# Altium schematic symbol library Altium Library Master.SchLib: 676 symbols (part 2 of 4)
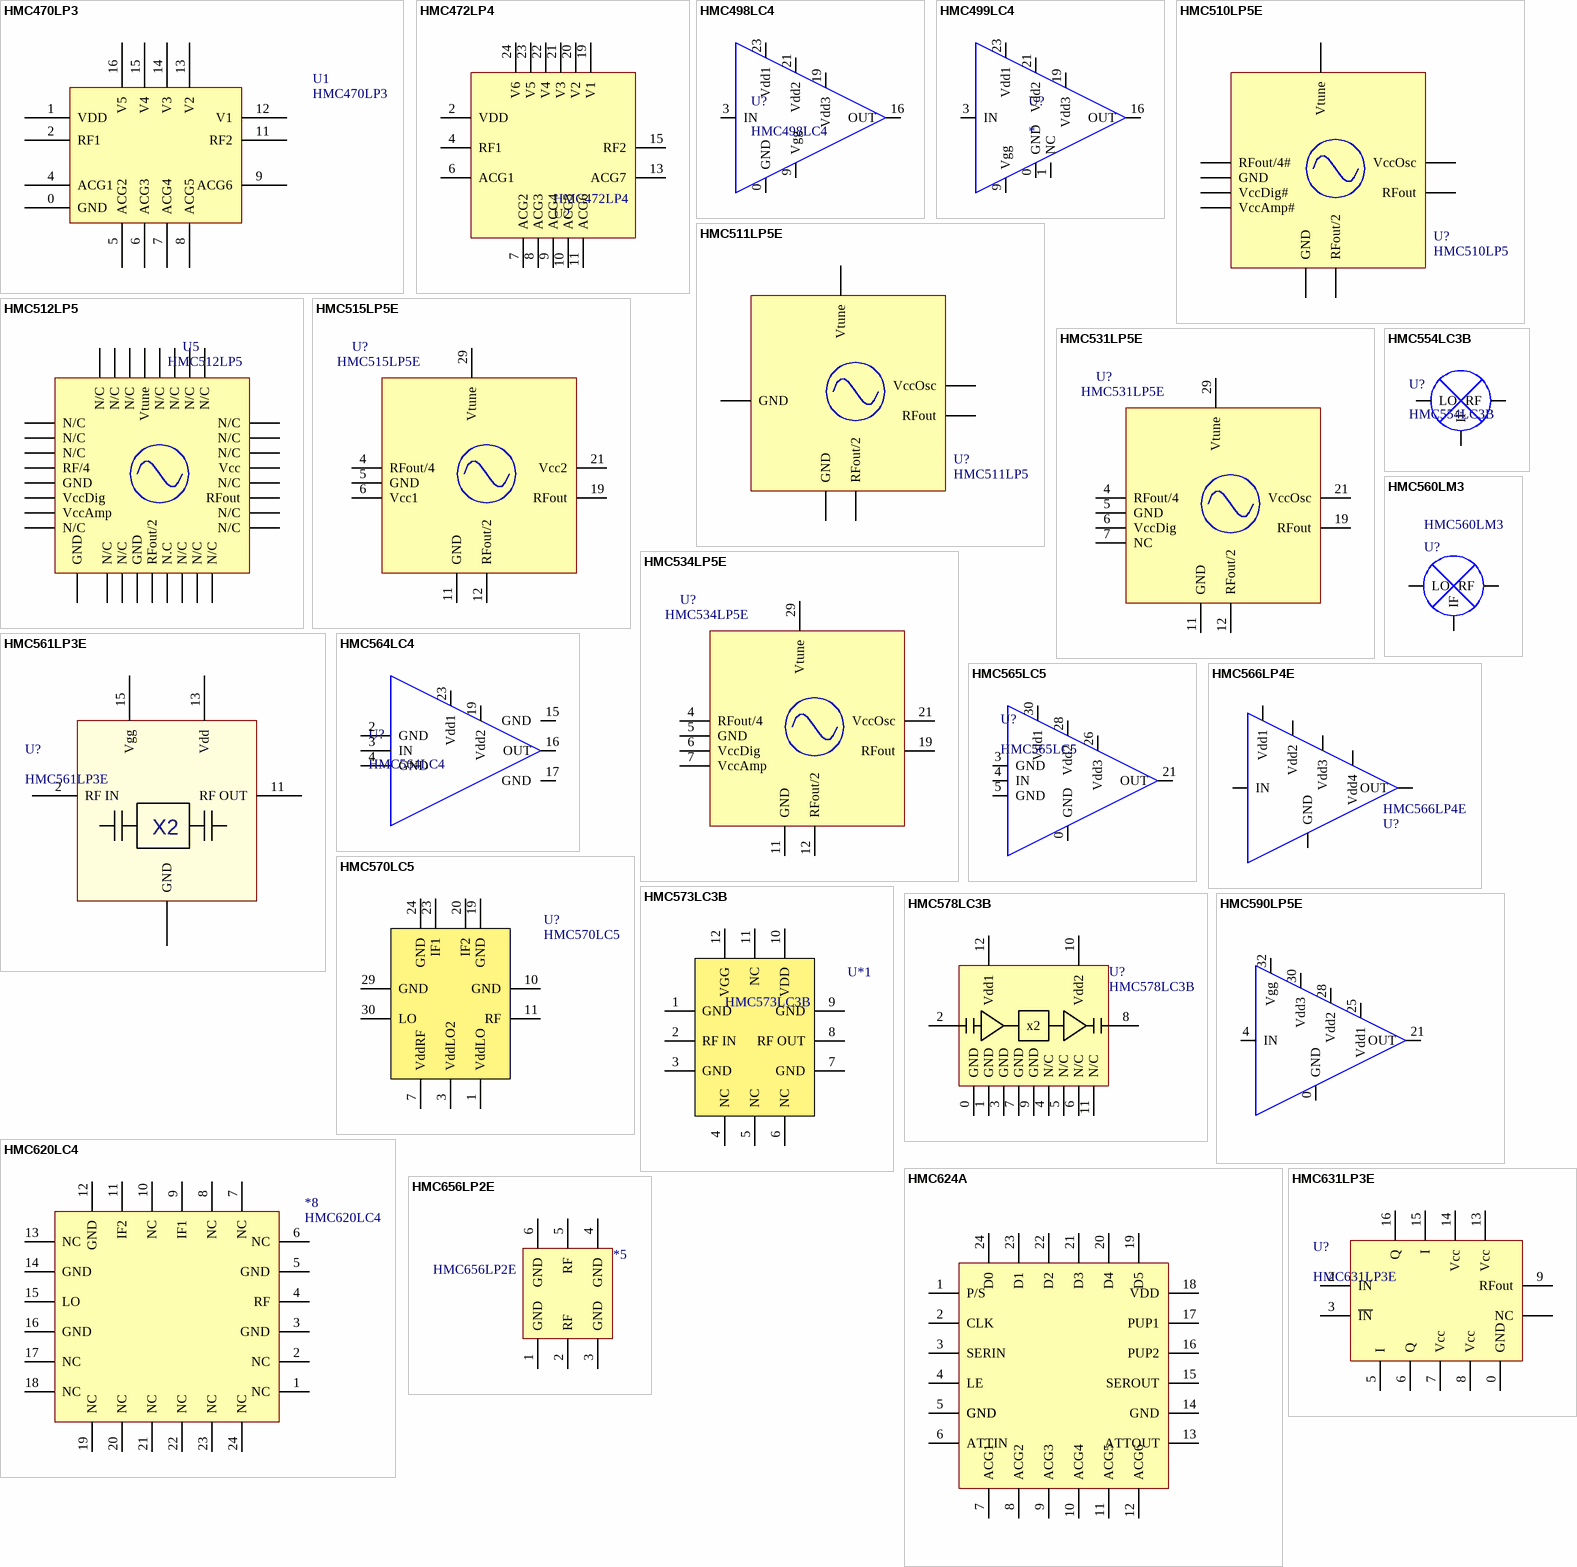
[diagram p32: symbols HMC470LP3 to HMC656LP2E]

## HMC511LP5E
designator U?, comment HMC511LP5
MMIC VCO with Half Frequency Output,  9.05 GHz to 10.15 GHz
pins: 0 GND hidden to GND, 1 N/C hidden to GND, 2 N/C hidden to GND, 3 N/C hidden to GND, 4 N/C hidden, 5 GND, 6 N/C hidden, 7 N/C hidden, 8 N/C hidden to GND, 9 N/C hidden to GND, 10 N/C hidden to GND, 11 GND, 12 RFout/2, 13 N.C hidden to GND, 14 N/C hidden to GND, 15 N/C hidden to GND, 16 N/C hidden to GND, 17 N/C hidden to GND, 18 N/C hidden to GND, 19 RFout, 20 N/C hidden to GND, 21 VccOsc, 22 N/C hidden to GND, 23 N/C hidden to GND, 24 N/C hidden to GND, 25 N/C hidden to GND, 26 N/C hidden to GND, 27 N/C hidden to GND, 28 N/C hidden to GND, 29 Vtune, 30 N/C hidden to GND, 31 N/C hidden to GND, 32 N/C hidden to GND

## HMC512LP5
designator U5
MMIC VCO w/ HALF FREQUENCY OUTPUT  & DIVIDE-BY-4, 9.6 - 10.6GHz
footprint RFVC1834 (9.0GHz to 10.2GHz MMIC VCO with  Fo/2 and Fo/4 Outputs)
footprint HMC515LP5E (MMIC VCO w/ HALF FREQUENCY OUTPUT  & DIVIDE-BY-4, 11.5 - 12.5 GHz)
pins: 0 GND hidden to GND, 1 N/C hidden to GND, 2 N/C hidden to GND, 3 N/C hidden to GND, 4 RF/4 "Vcc2", 5 GND "Vcc2", 6 VccDig "Vcc2", 7 VccAmp "Vcc2", 8 N/C hidden to GND, 9 N/C hidden to GND, 10 N/C hidden to GND, 11 GND, 12 RFout/2, 13 N.C hidden to GND, 14 N/C hidden to GND, 15 N/C hidden to GND, 16 N/C hidden to GND, 17 N/C hidden to GND, 18 N/C hidden to GND, 19 RFout, 20 N/C hidden to GND, 21 Vcc "Vcc2", 22 N/C hidden to GND, 23 N/C hidden to GND, 24 N/C hidden to GND, 25 N/C hidden to GND, 26 N/C hidden to GND, 27 N/C hidden to GND, 28 N/C hidden to GND, 29 Vtune, 30 N/C hidden to GND, 31 N/C hidden to GND, 32 N/C hidden to GND

## HMC515LP5E
designator U?
MMIC VCO w/ HALF FREQUENCY OUTPUT  & DIVIDE-BY-4, 11.5 - 12.5 GHz
pins: 0 GND hidden to GND, 1 N/C hidden to GND, 2 N/C hidden to GND, 3 N/C hidden to GND, 4 RFout/4, 5 GND, 6 Vcc1, 7 N/C hidden to GND, 8 N/C hidden to GND, 9 N/C hidden to GND, 10 N/C hidden to GND, 11 GND, 12 RFout/2, 13 N.C hidden to GND, 14 N/C hidden to GND, 15 N/C hidden to GND, 16 N/C hidden to GND, 17 N/C hidden to GND, 18 N/C hidden to GND, 19 RFout, 20 N/C hidden to GND, 21 Vcc2, 22 N/C hidden to GND, 23 N/C hidden to GND, 24 N/C hidden to GND, 25 N/C hidden to GND, 26 N/C hidden to GND, 27 N/C hidden to GND, 28 N/C hidden to GND, 29 Vtune, 30 N/C hidden to GND, 31 N/C hidden to GND, 32 N/C hidden to GND

## HMC531LP5E
designator U?
13.6 to 14.9GHz MMIC VCO with  Fo/2 and Fo/4 Outputs
pins: 0 GND hidden to GND, 1 N/C hidden to GND, 2 N/C hidden to GND, 3 N/C hidden to GND, 4 RFout/4, 5 GND, 6 VccDig, 7 NC, 8 N/C hidden to GND, 9 N/C hidden to GND, 10 N/C hidden to GND, 11 GND, 12 RFout/2, 13 N.C hidden to GND, 14 N/C hidden to GND, 15 N/C hidden to GND, 16 N/C hidden to GND, 17 N/C hidden to GND, 18 N/C hidden to GND, 19 RFout, 20 N/C hidden to GND, 21 VccOsc, 22 N/C hidden to GND, 23 N/C hidden to GND, 24 N/C hidden to GND, 25 N/C hidden to GND, 26 N/C hidden to GND, 27 N/C hidden to GND, 28 N/C hidden to GND, 29 Vtune, 30 N/C hidden to GND, 31 N/C hidden to GND, 32 N/C hidden to GND

## HMC534LP5E
designator U?
10.6GHz to 11.8GHz MMIC VCO with  Fo/2 and Fo/4 Outputs
pins: 0 GND hidden to GND, 1 N/C hidden to GND, 2 N/C hidden to GND, 3 N/C hidden to GND, 4 RFout/4, 5 GND, 6 VccDig, 7 VccAmp, 8 N/C hidden to GND, 9 N/C hidden to GND, 10 N/C hidden to GND, 11 GND, 12 RFout/2, 13 N.C hidden to GND, 14 N/C hidden to GND, 15 N/C hidden to GND, 16 N/C hidden to GND, 17 N/C hidden to GND, 18 N/C hidden to GND, 19 RFout, 20 N/C hidden to GND, 21 VccOsc, 22 N/C hidden to GND, 23 N/C hidden to GND, 24 N/C hidden to GND, 25 N/C hidden to GND, 26 N/C hidden to GND, 27 N/C hidden to GND, 28 N/C hidden to GND, 29 Vtune, 30 N/C hidden to GND, 31 N/C hidden to GND, 32 N/C hidden to GND

## HMC554LC3B
designator U?
GaAs MMIC Fundamental Mixer, 11-20GHz
pins: 0 GND hidden to GND, 1 GND hidden to GND, 2 LO, 3 GND hidden to GND, 4 GND hidden to GND, 5 IF, 6 GND hidden to GND, 7 GND hidden to GND, 8 RF, 9 GND hidden to GND, 10 GND hidden to GND, 11 GND hidden to GND, 12 GND hidden to GND

## HMC560LM3
designator U?
GaAs MMIC Fundamental Mixer
pins: 0 GND hidden to GND, 1 NC hidden, 2 NC hidden, 3 NC hidden, 4 RF, 5 IF, 6 LO

## HMC561LP3E
designator U?
MMIC, x2 Multiplier, Active, Fo-8-21GHz, Po=+14dBm, 5V@ 98mA
pins: 0 GND "VDD", 1 GND "VDD", 2 RF IN "GND", 3 GND "Enable", 4 N/C, 5 N/C, 6 N/C, 7 N/C, 8 N/C, 9 N/C, 10 GND "Vout 3", 11 RF OUT "Vout 2", 12 GND "Vout 1", 13 Vdd "Set VR2", 14 N/C, 15 Vgg "Feedback for VR1", 16 N/C
text: X2

## HMC564LC4
designator U?
PHEMT LOW NOISE  AMPLIFIER, 7 - 14 GHz
pins: 0 GND hidden to GND, 1 GND hidden to GND, 2 GND, 3 IN, 4 GND, 5 NC hidden to GND, 6 NC hidden to GND, 7 NC hidden to GND, 8 NC hidden to GND, 9 NC hidden to GND, 10 NC hidden to GND, 11 NC hidden to GND, 12 NC hidden to GND, 13 NC hidden to GND, 14 NC hidden to GND, 15 GND, 16 OUT, 17 GND, 18 GND hidden to GND, 19 Vdd2, 20 NC hidden to GND, 21 NC hidden to GND, 22 NC hidden to GND, 23 Vdd1, 24 NC hidden to GND

## HMC565LC5
designator U?
GaAs SMT PHEMT LNA, 6-20GHz
pins: 0 GND, 1 GND, 2 GND, 3 GND, 4 IN, 5 GND, 6 GND, 7 GND, 8 GND, 9 GND, 10 GND, 11 GND, 12 GND, 13 GND, 14 GND, 15 GND, 16 GND, 17 GND, 18 GND, 19 GND, 20 GND, 21 OUT, 22 GND, 23 GND, 24 GND, 25 GND, 26 Vdd3, 27 GND, 28 Vdd2, 29 GND, 30 Vdd1, 31 GND, 32 GND

## HMC566LP4E
designator U?
GaAs SMT PHEMT LNA, 28-36GHz
pins: 0 GND, 1 GND hidden to GND, 2 GND hidden to GND, 3 IN, 4 GND hidden to GND, 5 GND hidden to GND, 6 GND hidden to GND, 7 GND hidden to GND, 8 NC hidden to GND, 9 NC hidden to GND, 10 NC hidden to GND, 11 NC hidden to GND, 12 GND hidden to GND, 13 GND hidden to GND, 14 GND hidden to GND, 15 GND hidden to GND, 16 OUT, 17 GND hidden to GND, 18 GND hidden to GND, 19 GND hidden to GND, 20 Vdd4, 21 Vdd3, 22 Vdd2, 23 Vdd1, 24 GND hidden to GND

## HMC570LC5
designator U?
GaAs MMIC I/Q Downconverter, 17-21 GHz
pins: 0 GND hidden to GND, 1 VddLO, 2 hidden to GND, 3 VddLO2, 4 hidden to GND, 5 hidden to GND, 6 hidden to GND, 7 VddRF, 8 hidden to GND, 9 hidden to GND, 10 GND, 11 RF, 12 hidden to GND, 13 hidden to GND, 14 hidden to GND, 15 hidden to GND, 16 hidden to GND, 17 hidden to GND, 18 hidden to GND, 19 GND, 20 IF2, 21 hidden to GND, 22 hidden to GND, 23 IF1, 24 GND, 25 hidden to GND, 26 hidden to GND, 27 hidden to GND, 28 hidden to GND, 29 GND, 30 LO, 31 hidden to GND, 32 hidden to GND

## HMC573LC3B
designator U*1
pins: 1 GND, 2 RF IN, 3 GND, 4 NC, 5 NC, 6 NC, 7 GND, 8 RF OUT, 9 GND, 10 VDD, 11 NC, 12 VGG

## HMC578LC3B
designator U?
GaAs MMIX doubler, 23-33GHz Output, +5V@81mA; Part Number: 58-HMC578L-01
footprint HMC578LC3B (Footprint from HMC578LC3B eval board)
pins: 0 GND, 1 GND, 2 IN, 3 GND, 4 N/C, 5 N/C, 6 N/C, 7 GND, 8 OUT, 9 GND, 10 Vdd2, 11 N/C, 12 Vdd1, Name1 x2

## HMC590LP5E
designator H?
MMIC, 6-9.5GHz, P=30dBm, G=20dB, QFN 5x5
pins: 0 GND, 1 N/C hidden to GND, 2 N/C hidden to GND, 3 GND hidden to GND, 4 IN, 5 GND hidden to GND, 6 N/C hidden to GND, 7 N/C hidden to GND, 8 N/C hidden to GND, 9 N/C hidden to GND, 10 N/C hidden to GND, 11 N/C hidden to GND, 12 N/C hidden to GND, 13 N/C hidden to GND, 14 N/C hidden to GND, 15 N/C hidden to GND, 16 N/C hidden to GND, 17 N/C hidden to GND, 18 N/C hidden to GND, 19 N/C hidden to GND, 20 GND hidden to GND, 21 OUT, 22 GND hidden to GND, 23 N/C hidden to GND, 24 N/C hidden to GND, 25 Vdd1, 26 N/C hidden to GND, 27 N/C hidden to GND, 28 Vdd2, 29 N/C hidden to GND, 30 Vdd3, 31 N/C hidden to GND, 32 Vgg

## HMC620LC4
designator *8
pins: 1 NC, 2 NC, 3 GND, 4 RF, 5 GND, 6 NC, 7 NC, 8 NC, 9 IF1, 10 NC, 11 IF2, 12 GND, 13 NC, 14 GND, 15 LO, 16 GND, 17 NC, 18 NC, 19 NC, 20 NC, 21 NC, 22 NC, 23 NC, 24 NC

## HMC624A
designator U?
Attenuator, 6bit 31.5dB, 0-6GHz, Ser/Parallel, 24-VQFN
pins: 0 GND, 1 P/S "GND", 2 CLK, 3 SERIN, 4 LE, 5 GND, 6 ATTIN, 7 ACG1, 8 ACG2, 9 ACG3, 10 ACG4, 11 ACG5, 12 ACG6, 13 ATTOUT, 14 GND, 15 SEROUT, 16 PUP2, 17 PUP1, 18 VDD, 19 D5, 20 D4, 21 D3, 22 D2, 23 D1, 24 D0

## HMC631LP3E
designator U?
RF Modulator, 1.8GHz-2.7GHz, 16-VFQFN
pins: 0 GND, 1 NC, 2 IN, 3 ~{IN}, 4 NC, 5 I, 6 Q, 7 Vcc, 8 Vcc, 9 RFout, 10 NC, 11 NC, 12 NC, 13 Vcc, 14 Vcc, 15 I, 16 Q

## HMC656LP2E
designator *5
pins: 1 GND, 2 RF, 3 GND, 4 GND, 5 RF, 6 GND

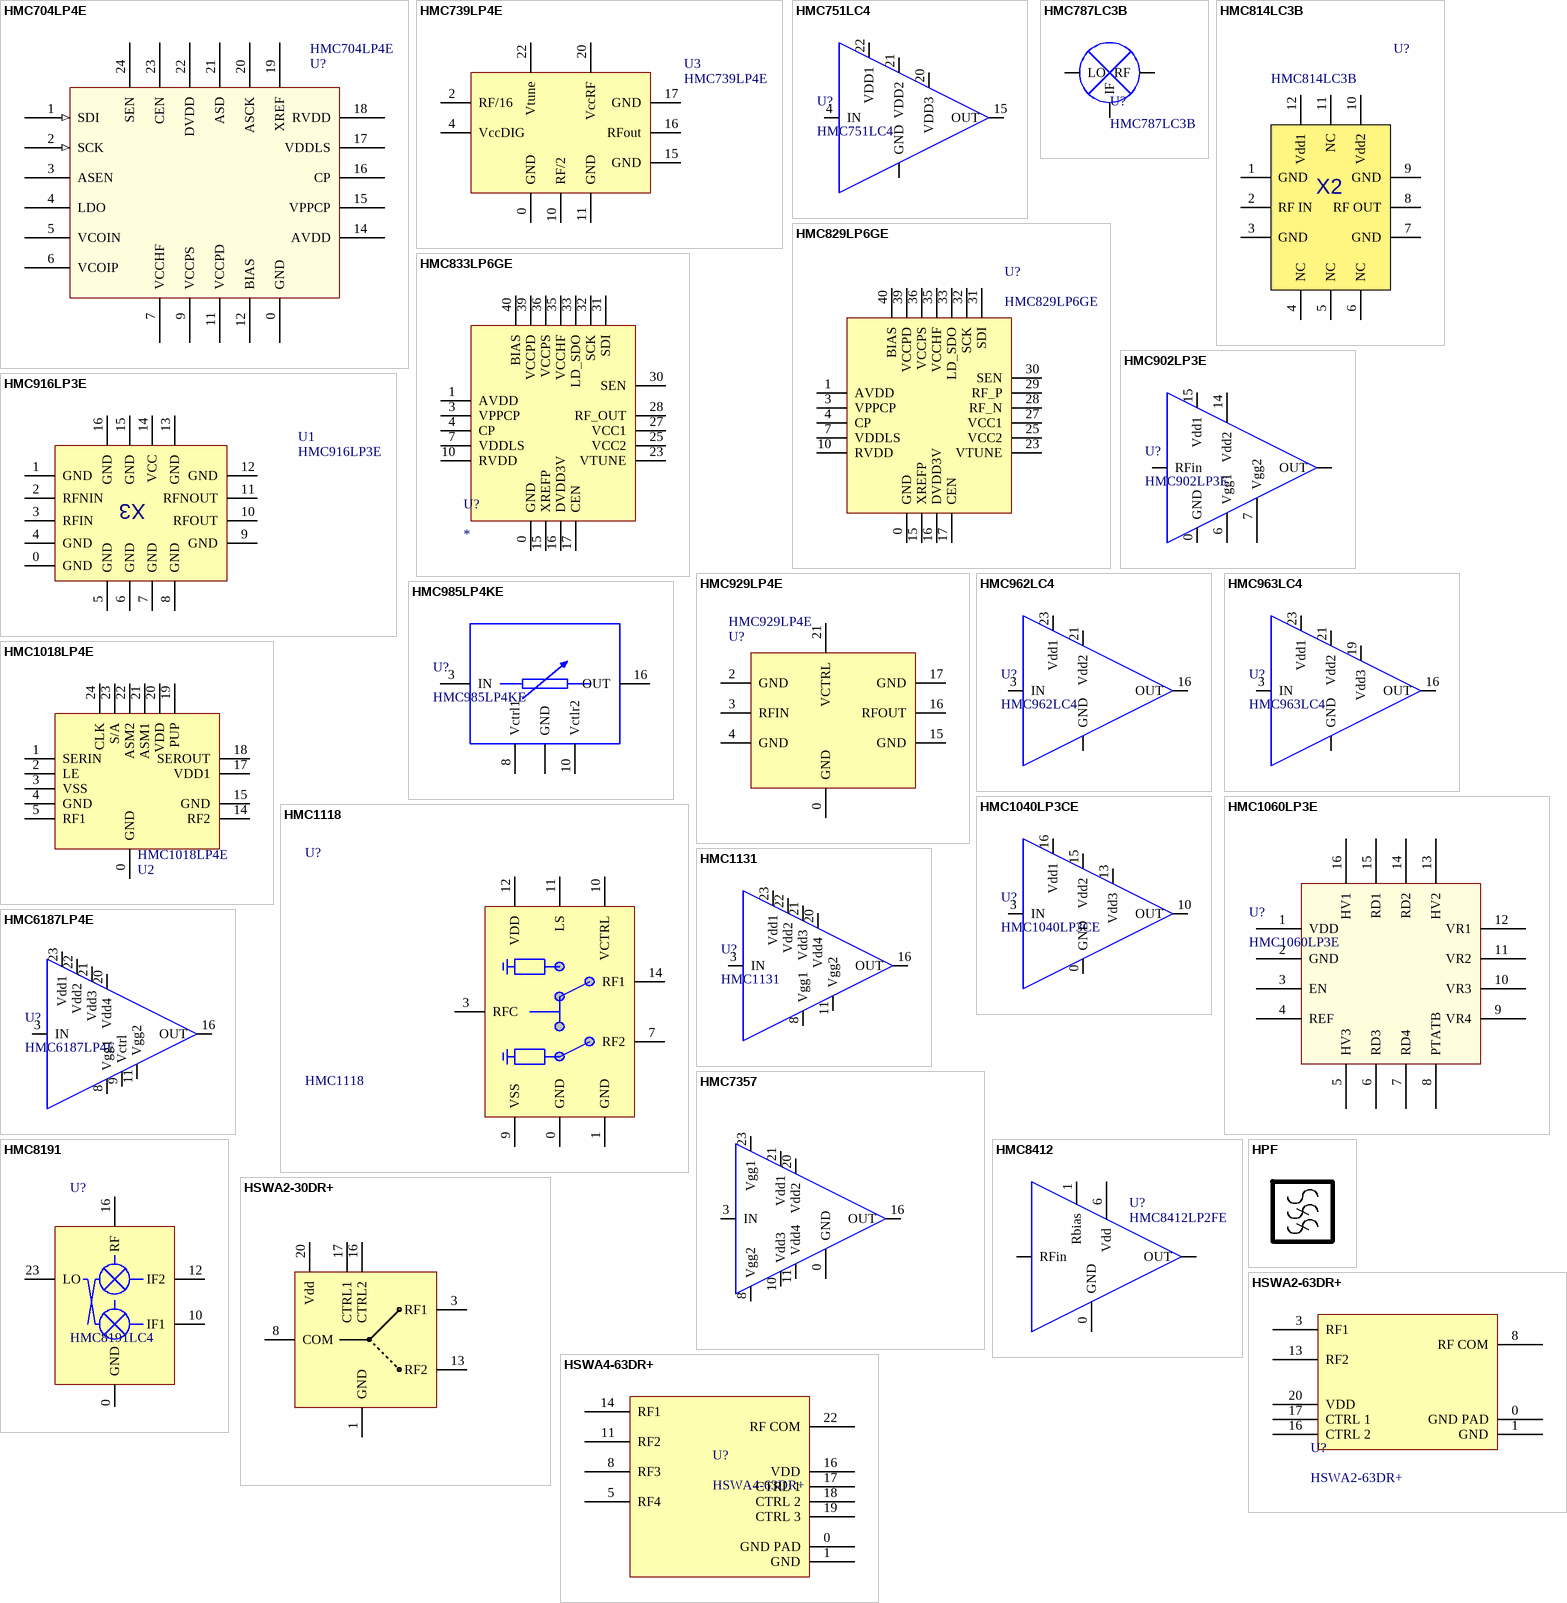
[diagram p10: symbols HMC704LP4E to HSWA4-63DR+]

## HMC704LP4E
designator U?
Fractional-N PLL
pins: 0 GND, 1 SDI (in) "Serial Data", 2 SCK (in) "Serial Clock", 3 ASEN "Aux Serial Port Enable", 4 LDO "Lock Detect Output", 5 VCOIN "VCO IN N", 6 VCOIP "VCO IN P", 7 VCCHF (power) "VCC RF", 8 hidden to GND, 9 VCCPS (power) "VCC Prescalar", 10 hidden to GND, 11 VCCPD (power) "VCC Phase Detector", 12 BIAS (power) "Bias", 13 hidden to GND, 14 AVDD (power) "Analog Supply", 15 VPPCP (power) "Charge Pump Supply", 16 CP "Charge Pump", 17 VDDLS (power) "Charge Pump Digital Supply", 18 RVDD (power) "REF Supply", 19 XREF "REF I/P", 20 ASCK "Aux clock output", 21 ASD "Aux data output", 22 DVDD (power) "Digital Supply", 23 CEN "Chip Enable", 24 SEN "Latch Enable"

## HMC739LP4E
designator U3
MMIC VCO, 23.8 - 26.8 GHz w/ divide by 2 & 16
pins: 0 GND, 1 NC hidden to GND, 2 RF/16 "RFout/16", 3 NC hidden to GND, 4 VccDIG "Vcc (DIG)", 5 NC hidden to GND, 6 NC hidden to GND, 7 NC hidden to GND, 8 NC hidden to GND, 9 NC hidden to GND, 10 RF/2 "RFout/2", 11 GND, 12 NC hidden to GND, 13 NC hidden to GND, 14 NC hidden to GND, 15 GND, 16 RFout, 17 GND, 18 NC hidden to GND, 19 NC hidden to GND, 20 VccRF "Vcc (RF)", 21 NC hidden to GND, 22 Vtune, 23 NC hidden to GND, 24 NC hidden to GND

## HMC751LC4
designator U?
GaAa pHEMT MMIC LOW NOISE  AMPLIFIER, 17 - 27 GHz
pins: 0 GND, 1 GND hidden to GND, 2 NC hidden to GND, 3 GND hidden to GND, 4 IN, 5 GND hidden to GND, 6 NC hidden to GND, 7 GND hidden to GND, 8 NC hidden to GND, 9 NC hidden to GND, 10 NC hidden to GND, 11 NC hidden to GND, 12 GND hidden to GND, 13 GND hidden to GND, 14 GND hidden to GND, 15 OUT, 16 GND hidden to GND, 17 NC hidden to GND, 18 GND hidden to GND, 19 GND hidden to GND, 20 VDD3, 21 VDD2, 22 VDD1, 23 NC hidden to GND, 24 GND hidden to GND

## HMC787LC3B
designator U?
GaAs MMIC Fundamental Mixer, 3-10GHz
pins: 0 GND hidden to GND, 1 GND hidden to GND, 2 LO, 3 GND hidden to GND, 4 GND hidden to GND, 5 IF, 6 GND hidden to GND, 7 GND hidden to GND, 8 RF, 9 GND hidden to GND, 10 GND hidden to GND, 11 GND hidden to GND, 12 GND hidden to GND

## HMC814LC3B
designator U?
GaAs MMIC X2 Active Freq Multiplier, 13-24.6GHz
pins: 0 GND hidden to GND, 1 GND, 2 RF IN, 3 GND, 4 NC, 5 NC, 6 NC, 7 GND, 8 RF OUT, 9 GND, 10 Vdd2, 11 NC, 12 Vdd1
text: X2

## HMC829LP6GE
designator U?
Fractional-N PLL and VCO, 45-1050, 1400-2100, 2800-4200, Phase Noise = -110 dBc/Hz, SPI
pins: 0 GND, 1 AVDD, 3 VPPCP, 4 CP, 7 VDDLS, 10 RVDD, 15 XREFP, 16 DVDD3V, 17 CEN, 23 VTUNE, 25 VCC2, 27 VCC1, 28 RF_N, 29 RF_P, 30 SEN, 31 SDI, 32 SCK, 33 LD_SDO, 35 VCCHF, 36 VCCPS, 39 VCCPD, 40 BIAS

## HMC833LP6GE
designator U?
PLL Fractional-N /w VCO, 25-6000MHz
pins: 0 GND, 1 AVDD, 2 hidden to GND, 3 VPPCP, 4 CP, 5 hidden to GND, 6 hidden to GND, 7 VDDLS, 8 hidden, 9 hidden to GND, 10 RVDD, 11 hidden to GND, 12 hidden to GND, 13 hidden to GND, 14 hidden to GND, 15 XREFP, 16 DVDD3V, 17 CEN, 18 hidden to GND, 19 hidden to GND, 20 hidden to GND, 21 hidden to GND, 22 hidden to GND, 23 VTUNE, 24 hidden to GND, 25 VCC2, 26 hidden to GND, 27 VCC1, 28 RF_OUT, 29 hidden to GND, 30 SEN, 31 SDI, 32 SCK, 33 LD_SDO, 34 hidden to GND, 35 VCCHF, 36 VCCPS, 37 hidden to GND, 38 hidden to GND, 39 VCCPD, 40 BIAS

## HMC902LP3E
designator U?
GaAs pHEMT MMIC LOW NOISE  AMPLIFIER, 5 - 10 GHz
pins: 0 GND, 1 GND hidden to GND, 2 GND hidden to GND, 3 RFin, 4 GND hidden to GND, 5 GND hidden to GND, 6 Vgg1, 7 Vgg2, 8 GND hidden to GND, 9 GND hidden to GND, 10 OUT, 11 GND hidden to GND, 12 GND hidden to GND, 13 GND hidden to GND, 14 Vdd2, 15 Vdd1, 16 GND hidden to GND

## HMC916LP3E
designator U1
MMIC x3 ACTIVE  FREQUENCY MULTIPLIER, 8 - 16 GHz OUTPUT
footprint LP3
pins: 0 GND, 1 GND, 2 RFNIN, 3 RFIN, 4 GND, 5 GND, 6 GND, 7 GND, 8 GND, 9 GND, 10 RFOUT, 11 RFNOUT, 12 GND, 13 GND, 14 VCC, 15 GND, 16 GND
text: X3

## HMC929LP4E
designator U?
Analog Phase Shifter, 4 - 8 GHz
pins: 0 GND, 2 GND, 3 RFIN, 4 GND, 15 GND, 16 RFOUT, 17 GND, 21 VCTRL

## HMC962LC4
designator U?
pHEMT MMIC LOW NOISE  AMPLIFIER, 7.5 - 26.5 GHz
pins: 0 GND, 1 GND hidden to GND, 2 GND hidden to GND, 3 IN, 4 GND hidden to GND, 5 NC hidden to GND, 6 NC hidden to GND, 7 NC hidden to GND, 8 NC hidden to GND, 9 NC hidden to GND, 10 NC hidden to GND, 11 NC hidden to GND, 12 NC hidden to GND, 13 NC hidden to GND, 14 NC hidden to GND, 15 GND hidden to GND, 16 OUT, 17 GND hidden to GND, 18 GND hidden to GND, 19 NC hidden to GND, 20 NC hidden to GND, 21 Vdd2, 22 NC hidden to GND, 23 Vdd1, 24 NC hidden to GND

## HMC963LC4
designator U?
pHEMT MMIC LOW NOISE  AMPLIFIER, 6 - 26.5 GHz
pins: 0 GND, 1 GND hidden to GND, 2 GND hidden to GND, 3 IN, 4 GND hidden to GND, 5 NC hidden to GND, 6 NC hidden to GND, 7 NC hidden to GND, 8 NC hidden to GND, 9 NC hidden to GND, 10 NC hidden to GND, 11 NC hidden to GND, 12 NC hidden to GND, 13 NC hidden to GND, 14 NC hidden to GND, 15 GND hidden to GND, 16 OUT, 17 GND hidden to GND, 18 GND hidden to GND, 19 Vdd3, 20 NC hidden to GND, 21 Vdd2, 22 NC hidden to GND, 23 Vdd1, 24 NC hidden to GND

## HMC985LP4KE
designator U?
VARIABLE VOLTAGE ATTENUATOR 10-40 GHz
pins: 0 GND, 1 GND hidden to GND, 2 GND hidden to GND, 3 IN, 4 GND hidden to GND, 5 GND hidden to GND, 6 NC hidden to GND, 7 GND hidden to GND, 8 Vctrl1, 9 NC hidden to GND, 10 Vctlr2, 11 NC hidden to GND, 12 GND hidden to GND, 13 GND hidden to GND, 14 GND hidden to GND, 15 GND hidden to GND, 16 OUT, 17 GND hidden to GND, 18 GND hidden to GND, 19 GND hidden to GND, 20 NC hidden, 21 NC hidden, 22 NC hidden, 23 NC hidden, 24 GND hidden to GND

## HMC1018LP4E
designator U2
Digital Attenuator, 0.1 - 30 GHz 5-bit serial
pins: 0 GND, 1 SERIN, 2 LE, 3 VSS, 4 GND, 5 RF1, 6 hidden to GND, 7 hidden to GND, 8 hidden to GND, 9 hidden to GND, 10 hidden to GND, 11 hidden to GND, 12 hidden to GND, 13 hidden to GND, 14 RF2 "RF1", 15 GND, 16 hidden to GND, 17 VDD1, 18 SEROUT, 19 PUP, 20 VDD, 21 ASM1, 22 ASM2 "ASM1", 23 S/A, 24 CLK

## HMC1040LP3CE
designator U?
GaAs SMT PHEMT LNA, 24-43GHz
pins: 0 GND, 1 hidden to GND, 2 hidden to GND, 3 IN, 4 hidden to GND, 5 hidden to GND, 6 hidden to GND, 7 hidden to GND, 8 hidden to GND, 9 hidden to GND, 10 OUT, 11 hidden to GND, 12 hidden to GND, 13 Vdd3, 14 hidden to GND, 15 Vdd2, 16 Vdd1

## HMC1060LP3E
designator U?
Volt Regulator, Quad adj, 500mA, Low Noise, LDO, LP3
pins: 0 GND hidden to GND, 1 VDD (power), 2 GND (power), 3 EN "Enable", 4 REF "Reference Voltage", 5 HV3 "Set VR3", 6 RD3 "Feedback for VR3", 7 RD4 "Feedback for VR4", 8 PTATB "PTAT", 9 VR4 (power) "Vout 4", 10 VR3 (power) "Vout 3", 11 VR2 (power) "Vout 2", 12 VR1 (power) "Vout 1", 13 HV2 "Set VR2", 14 RD2 (power) "Feedback for VR2", 15 RD1 (power) "Feedback for VR1", 16 HV1 "Set VR1"

## HMC1118
designator U?
RF Switch, SPDT, 9KhZ-13GHz, Absorptive, IL=0.7dB, P=37dBm, 0/3V3/-2V5, LFCSP-16 3mm; Part Number: 54-1118-01; MANUFACTURER: ANALOG; MODELNAME: HMC1118
footprint PQFN-14 3X3MM
pins: 0 GND, 1 GND, 2 GND, 3 RFC, 4 GND, 5 GND, 6 GND, 7 RF2, 8 GND, 9 VSS, 10 VCTRL, 11 LS, 12 VDD, 13 GND, 14 RF1, 15 GND, 16 GND

## HMC1131
designator U?
MEDIUM POWER AMPLIFIER  24 - 35 GHz
pins: 0 GND hidden to GND, 1 GND hidden to GND, 2 GND hidden to GND, 3 IN, 4 GND hidden to GND, 5 GND hidden to GND, 6 NC hidden to GND, 7 GND hidden to GND, 8 Vgg1, 9 NC hidden, 10 NC hidden, 11 Vgg2, 12 GND hidden to GND, 13 GND hidden to GND, 14 GND hidden to GND, 15 GND hidden to GND, 16 OUT, 17 GND hidden to GND, 18 GND hidden to GND, 19 GND hidden to GND, 20 Vdd4, 21 Vdd3, 22 Vdd2, 23 Vdd1, 24 GND hidden to GND

## HMC6187LP4E
designator U?
VARIABLE GAIN AMPLIFIER  27 - 31.5 GHz
pins: 0 GND hidden to GND, 1 GND hidden to GND, 2 GND hidden to GND, 3 IN, 4 GND hidden to GND, 5 GND hidden to GND, 6 NC hidden to GND, 7 GND hidden to GND, 8 Vgg1, 9 Vctrl, 10 NC hidden to GND, 11 Vgg2, 12 GND hidden to GND, 13 GND hidden to GND, 14 GND hidden to GND, 15 GND hidden to GND, 16 OUT, 17 GND hidden to GND, 18 GND hidden to GND, 19 GND hidden to GND, 20 Vdd4, 21 Vdd3, 22 Vdd2, 23 Vdd1, 24 GND hidden to GND

## HMC7357
designator U?
pins: 0 GND, 1 NC hidden to GND, 2 GND hidden to GND, 3 IN, 4 NC hidden to GND, 5 NC hidden to GND, 6 NC hidden to GND, 7 NC hidden to GND, 8 Vgg2, 9 NC hidden to GND, 10 Vdd3, 11 Vdd4, 12 NC hidden to GND, 13 NC hidden to GND, 14 NC hidden to GND, 15 GND hidden to GND, 16 OUT, 17 NC hidden to GND, 18 NC hidden to GND, 19 NC hidden to GND, 20 Vdd2, 21 Vdd1, 22 NC hidden to GND, 23 Vgg1, 24 NC hidden to GND

## HMC8191
designator U?, comment HMC8191LC4
Mixer, image reject, 6 - 26.5 GHz
pins: 0 GND, 1 GND, 2 GND, 3 GND, 4 GND, 5 GND, 6 GND, 7 GND, 8 GND, 9 GND, 10 IF1, 11 GND, 12 IF2, 13 GND, 14 GND, 15 GND, 16 RF, 17 GND, 18 GND, 19 GND, 20 GND, 21 GND, 22 GND, 23 LO, 24 GND

## HMC8412
designator U?, comment HMC8412LP2FE
Low Noise Amplifier, 0.4 GHz to 11 GHz; Part Number: 58-HMC902-01
pins: 0 GND, 1 Rbias, 2 GND hidden to GND, 3 RFin, 4 OUT, 5 GND hidden to GND, 6 Vdd

## HPF
designator Z?

## HSWA2-30DR+
designator S?
RF Switch, SPDT, DC-3GHz, Absorptive, IL=1dB, I=60dB, P=30dBm, 2V7-3V3, 4x4 QFN; Part Number: 20-H10-04
footprint DG983-1 (RF Switch, SPDT, DC-3GHz, Absorptive, IL=1dB, I=60dB, P=30dBm, 2V7-3V3, 4x4 QFN)
pins: 0 GND, 1 GND, 2 GND, 3 RF1, 4 GND, 5 GND, 6 GND, 7 GND, 8 COM, 9 GND, 10 GND, 11 GND, 12 GND, 13 RF2, 14 GND, 15 GND, 16 CTRL2, 17 CTRL1, 18 GND, 19 GND, 20 Vdd

## HSWA2-63DR+
designator U?
SP2T RF Switch, Absorptive, 0.1 to 6GHz
footprint DG983-3 (RF Switch, SPDT, 0.5-6GHz, Absorptive, IL=1dB, I=65dB, P=35dBm, 2V7-5V5, 4x4 QFN)
pins: 0 GND PAD, 1 GND, 2 GND hidden to GND, 3 RF1, 4 GND hidden to GND, 5 GND hidden to GND, 6 GND hidden to GND, 7 GND hidden to GND, 8 RF COM, 9 GND hidden to GND, 10 GND hidden to GND, 11 GND hidden to GND, 12 GND hidden to GND, 13 RF2, 14 GND hidden to GND, 15 GND hidden to GND, 16 CTRL 2, 17 CTRL 1, 18 GND hidden to GND, 19 GND hidden to GND, 20 VDD

## HSWA4-63DR+
designator U?
SP4T RF Switch, Absorptive, 0.1 to 6GHz
footprint QFN50P400X400X75_HS-25N (QFN, 24-Leads, Body 4.00x4.00mm, Pitch 0.50mm, Thermal Pad 2.75x2.75mm, IPC Medium Density)
pins: 0 GND PAD, 1 GND, 2 GND hidden to GND, 3 GND hidden to GND, 4 GND hidden to GND, 5 RF4, 6 GND hidden to GND, 7 GND hidden to GND, 8 RF3, 9 GND hidden to GND, 10 GND hidden to GND, 11 RF2, 12 GND hidden to GND, 13 GND hidden to GND, 14 RF1, 15 GND hidden to GND, 16 VDD, 17 CTRL 1, 18 CTRL 2, 19 CTRL 3, 20 GND hidden to GND, 21 GND hidden to GND, 22 RF COM, 23 GND hidden to GND, 24 GND hidden to GND

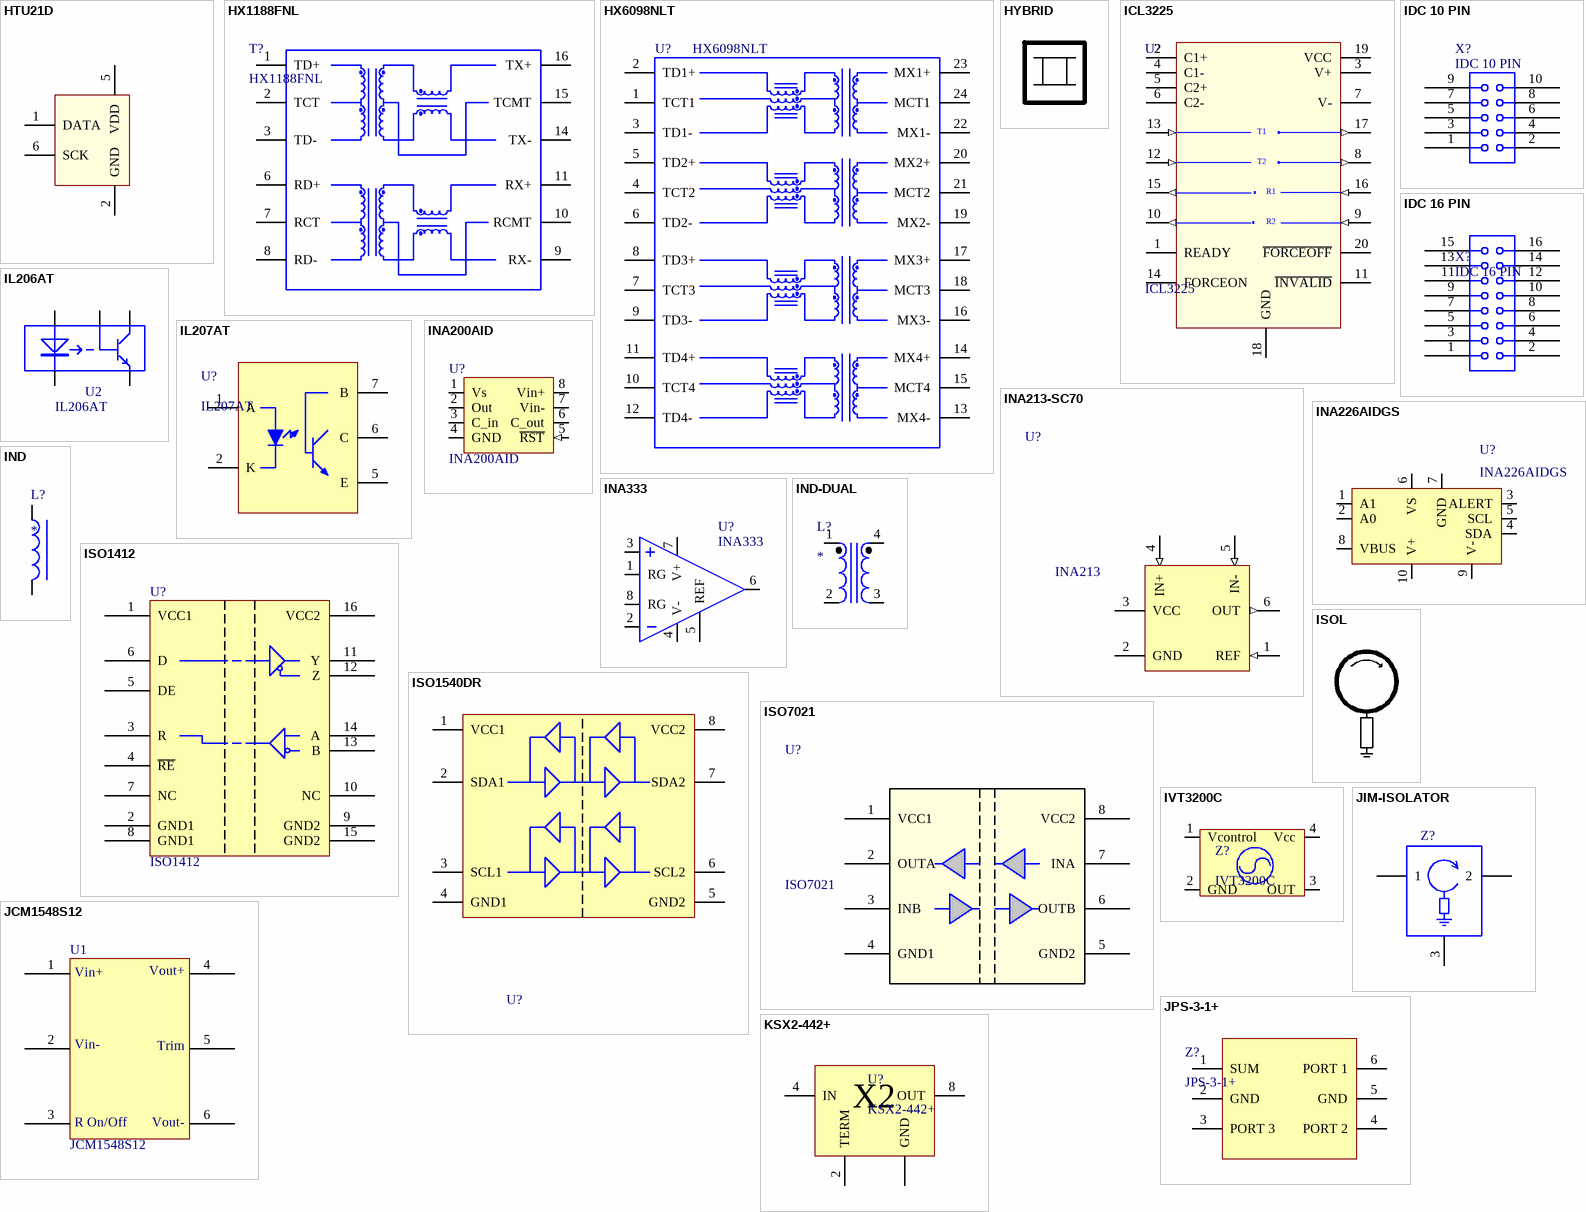
[diagram p11: symbols HTU21D to KSX2-442+]

## HTU21D
designator U?
PCB Header, 5+5way, 1.27mm, Polarise, SMD; Part Number: 20-H10-04
pins: 1 DATA, 2 GND, 5 VDD, 6 SCK

## HX1188FNL
designator T?
Ethernet Pulse Transformer
pins: 1 TD+, 2 TCT, 3 TD-, 6 RD+, 7 RCT, 8 RD-, 9 RX-, 10 RCMT, 11 RX+, 14 TX-, 15 TCMT, 16 TX+

## HX6098NLT
designator U?
Ethernet Transformer, Gigabit, 4-pair PoE
footprint HX6098NLT (Transformer, Ethernet, PoE, 1000Base-T, 140W, 1.5kV, SMD, -40/85C)
pins: 1 TCT1, 2 TD1+, 3 TD1-, 4 TCT2, 5 TD2+, 6 TD2-, 7 TCT3, 8 TD3+, 9 TD3-, 10 TCT4, 11 TD4+, 12 TD4-, 13 MX4-, 14 MX4+, 15 MCT4, 16 MX3-, 17 MX3+, 18 MCT3, 19 MX2-, 20 MX2+, 21 MCT2, 22 MX1-, 23 MX1+, 24 MCT1

## HYBRID
designator Z?

## ICL3225
designator U?
+3/5V RS-232 Dual Transceiver with 0.1µF External Capacitors; Published: 16-Jan-2001; LatestRevisionDate: 13-Apr-2006; LatestRevisionNote: IPC-7351 Footprint Added.; DatasheetVersion: Dec-1996; PackageReference: WSO16; Publisher: Altium Limited; PackageDescription: 16-Pin Small Outline Integrated Circuit 1.27 mm Pitch; Code_JEDEC: MS-013-AA; Code_IPC: SOIC127P1030-16; ComponentLink1Description: Manufacturer Link; ComponentLink1URL: http://www.maxim-ic.com/; ComponentLink2Description: Datasheet; ComponentLink2URL: http://pdfserv.maxim-ic.com/en/ds/MAX200-MAX213.pdf
pins: 1 READY (power), 2 C1+, 3 V+ (power), 4 C1-, 5 C2+, 6 C2-, 7 V- (power), 8 T2OUT (out), 9 R2IN (in), 10 R2OUT (out), 11 ~{INVALID} (power), 12 T2IN (in), 13 T1IN (in), 14 FORCEON (power), 15 R1OUT (out), 16 R1IN (in), 17 T1OUT (out), 18 GND (power), 19 VCC (power), 20 ~{FORCEOFF} (power)
text: T1; T2; R1; R2

## IDC 10 PIN
designator X?
pins: 1, 2, 3, 4, 5, 6, 7, 8, 9, 10

## IDC 16 PIN
designator X?
pins: 1, 2, 3, 4, 5, 6, 7, 8, 9, 10, 11, 12, 13, 14, 15, 16

## IL206AT
designator U2
pins: 1, 2, 5, 6, 7

## IL207AT
designator U?
Optocoupler
pins: 1 A, 2 K, 5 E, 6 C, 7 B

## INA200AID
designator U?
Current Sense Amp, 20V/V, 80V, -40/+125C, VSOP-8; Value: INA200AID
footprint VSSOP-8 (Pitch 0.65mm, 3x3mm body, 1.1mm height)
pins: 1 Vs (power), 2 Out, 3 C_in, 4 GND (power), 5 ~{RST} (in), 6 C_out, 7 Vin-, 8 Vin+

## INA213-SC70
designator U?, comment INA213
IC INA213 Bi-Directional Current Sense Amplifier -40°C to 125°C SC70 6-Pin; Manufacturer 1: TEXAS INSTRUMENTS; Manufacturer's 1 P/N: INA213AIDCK; UOM: EA; Price USD (1000): 0.69
footprint SC70-6 (SC70 6-Pin)
pins: 1 REF (in), 2 GND (power), 3 VCC (power), 4 IN+ (in), 5 IN- (in), 6 OUT (out)

## INA226AIDGS
designator U?
Bi-Directional Current/ Power Monitor, IIC, MSOP-10; Part Number: 53-226-01
footprint MSOP-10_INA226 (10-Lead Mini Small Outline Package (MSOP))
pins: 1 A1, 2 A0, 3 ALERT, 4 SDA, 5 SCL, 6 VS (power), 7 GND (power), 8 VBUS, 9 V-, 10 V+

## INA333
designator U?
Instrumentation Amplifier, Micro-Power, Zero-Drift, Rail-to-Rail Out; Part Number: 52-333-01
pins: 1 RG, 2 IN1-, 3 IN1+, 4 V-, 5 REF, 6 VOUT, 7 V+, 8 RG

## IND
designator L?
Inductor
pins: 1, 2

## IND-DUAL
designator L?
Inductor Dual
pins: 1, 2, 3, 4

## ISO1412
designator U?
RS-484 Transceiver, Isolated
pins: 1 VCC1, 2 GND1, 3 R, 4 ~{RE}, 5 DE, 6 D, 7 NC, 8 GND1, 9 GND2, 10 NC, 11 Y, 12 Z, 13 B, 14 A, 15 GND2, 16 VCC2

## ISO1540DR
designator U?
I2C Isolator
pins: 1 VCC1, 2 SDA1, 3 SCL1, 4 GND1, 5 GND2, 6 SCL2, 7 SDA2, 8 VCC2

## ISO7021
designator U?
Micropower two-channel digital isolator, 150-mil SOIC8, 1.71-1.89V and 2.25-5.5V
pins: 1 VCC1, 2 OUTA, 3 INB, 4 GND1, 5 GND2, 6 OUTB, 7 INA, 8 VCC2

## ISOL
designator U?

## IVT3200C
designator Z?
40MHz TCXO
pins: 1 Vcontrol, 2 GND, 3 OUT, 4 Vcc

## JCM1548S12
designator U1
footprint JCM1548S12 (48V to 12V DC - DC converter)
pins: 1, 2, 3, 4, 5, 6
text: Vin+; Vout+; Vin-; Trim; R On/Off; Vout-

## JIM-ISOLATOR
designator Z?
JIM-ISOLATOR
pins: 1, 2, 3 GND

## JPS-3-1+
designator Z?
*Divider/Combiner, 5-1000MHz, 3way 0deg, 50ohm, SMD
pins: 1 SUM, 2 GND, 3 PORT 3, 4 PORT 2, 5 GND, 6 PORT 1

## KSX2-442+
designator U?
2x Multiplier
pins: 1 GND, 2 TERM "External Termination Pin", 3 GND hidden to GND, 4 IN, 5 GND hidden to GND, 6 GND hidden to GND, 7 GND hidden to GND, 8 OUT
text: X2

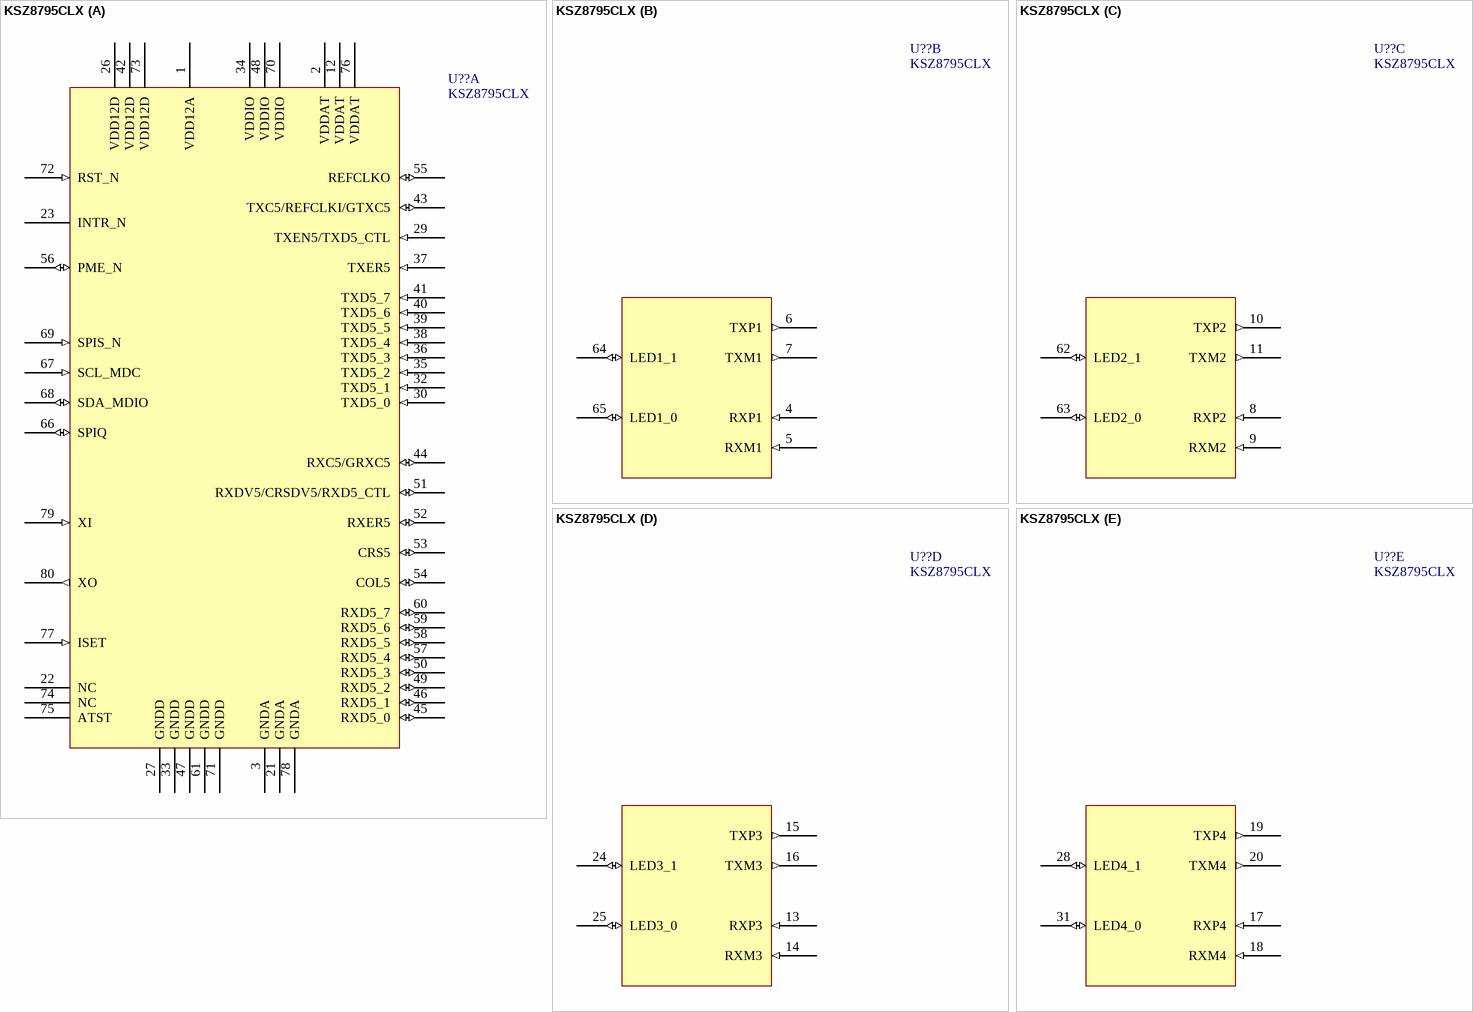
[diagram p12: symbol KSZ8795CLX]

## KSZ8795CLX
designator U??
*Ethernet Switch, 10/100, Managed, 5 Port, -40/+80degC; Part Number: 53-8795-01
footprint LQFP80_KSZ (TSQFP, 80-Leads, Body 10.00x10.00mm, Pitch 0.40mm, IPC Medium Density)
part A pins: 1 VDD12A (power), 2 VDDAT (power), 3 GNDA (power), 12 VDDAT (power), 21 GNDA (power), 22 NC, 23 INTR_N (oc), 26 VDD12D (power), 27 GNDD (power), 29 TXEN5/TXD5_CTL (in), 30 TXD5_0 (in), 32 TXD5_1 (in), 33 GNDD (power), 34 VDDIO (power), 35 TXD5_2 (in), 36 TXD5_3 (in), 37 TXER5 (in), 38 TXD5_4 (in), 39 TXD5_5 (in), 40 TXD5_6 (in), 41 TXD5_7 (in), 42 VDD12D (power), 43 TXC5/REFCLKI/GTXC5 (io), 44 RXC5/GRXC5 (io), 45 RXD5_0 (io), 46 RXD5_1 (io), 47 GNDD (power), 48 VDDIO (power), 49 RXD5_2 (io), 50 RXD5_3 (io), 51 RXDV5/CRSDV5/RXD5_CTL (io), 52 RXER5 (io), 53 CRS5 (io), 54 COL5 (io), 55 REFCLKO (io), 56 PME_N (io), 57 RXD5_4 (io), 58 RXD5_5 (io), 59 RXD5_6 (io), 60 RXD5_7 (io), 61 GNDD (power), 66 SPIQ (io), 67 SCL_MDC (in), 68 SDA_MDIO (io), 69 SPIS_N (in), 70 VDDIO (power), 71 GNDD (power), 72 RST_N (in), 73 VDD12D (power), 74 NC, 75 ATST, 76 VDDAT (power), 77 ISET (in), 78 GNDA (power), 79 XI (in), 80 XO (out)
part B pins: 4 RXP1 (in), 5 RXM1 (in), 6 TXP1 (out), 7 TXM1 (out), 64 LED1_1 (io), 65 LED1_0 (io)
part C pins: 8 RXP2 (in), 9 RXM2 (in), 10 TXP2 (out), 11 TXM2 (out), 62 LED2_1 (io), 63 LED2_0 (io)
part D pins: 13 RXP3 (in), 14 RXM3 (in), 15 TXP3 (out), 16 TXM3 (out), 24 LED3_1 (io), 25 LED3_0 (io)
part E pins: 17 RXP4 (in), 18 RXM4 (in), 19 TXP4 (out), 20 TXM4 (out), 28 LED4_1 (io), 31 LED4_0 (io)

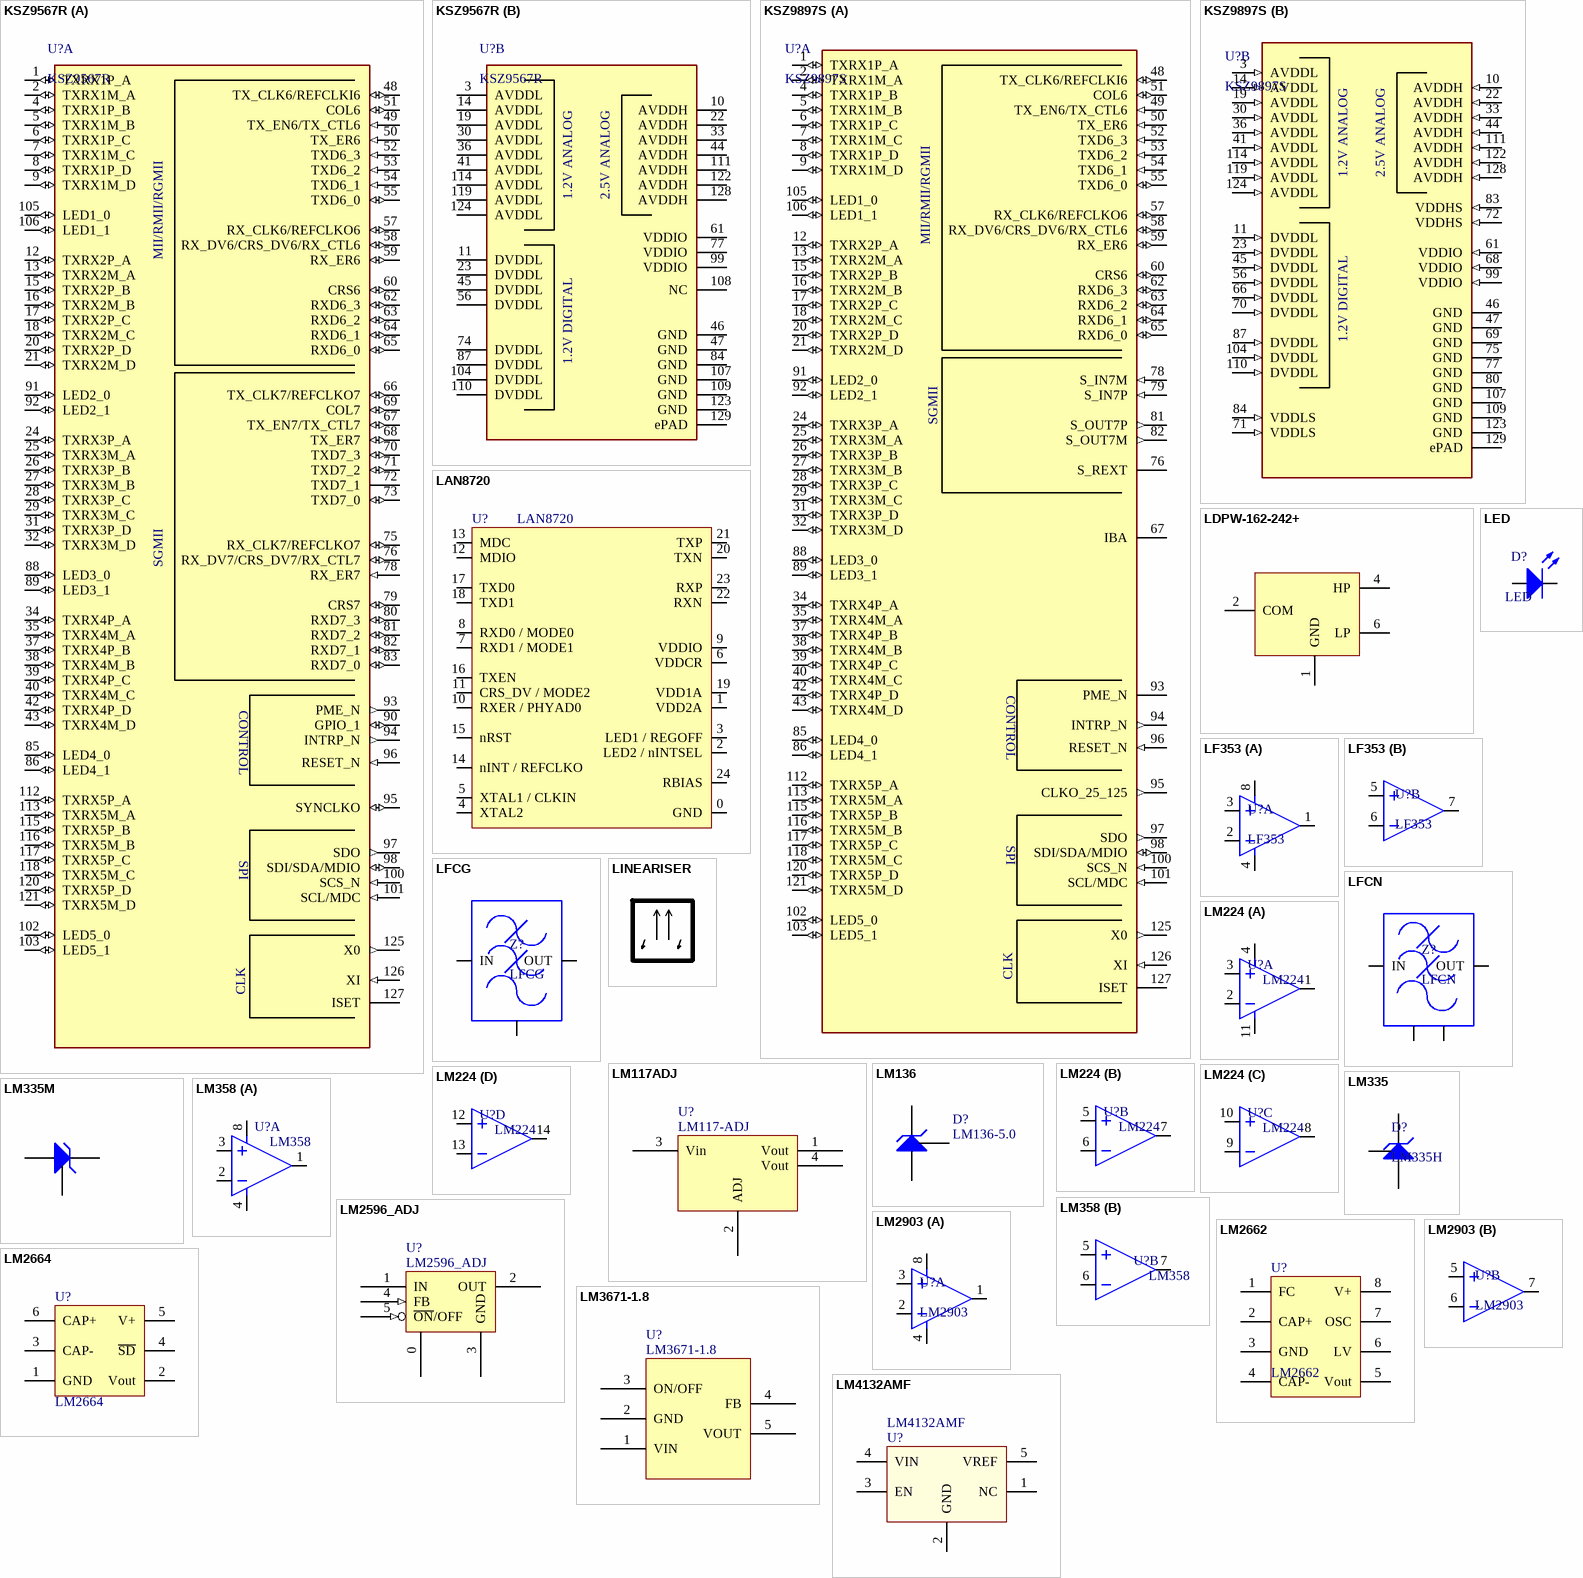
[diagram p13: symbols KSZ9567R to LM4132AMF]

## KSZ9567R
designator U?
7-Port Gigabit Ethernet Switch / with Audio Video Bridging and Two RGMII/MII/RMII Interfaces
footprint TQFP-128_14x14_EP10x10 (TSQFP, 128-Leads, Body 14.00x14.00mm, Pitch 0.40mm, 10mm Epad, IPC Medium Density)
part A pins: 1 TXRX1P_A (io), 2 TXRX1M_A (io), 4 TXRX1P_B (io), 5 TXRX1M_B (io), 6 TXRX1P_C (io), 7 TXRX1M_C (io), 8 TXRX1P_D (io), 9 TXRX1M_D (io), 12 TXRX2P_A (io), 13 TXRX2M_A (io), 15 TXRX2P_B (io), 16 TXRX2M_B (io), 17 TXRX2P_C (io), 18 TXRX2M_C (io), 20 TXRX2P_D (io), 21 TXRX2M_D (io), 24 TXRX3P_A (io), 25 TXRX3M_A (io), 26 TXRX3P_B (io), 27 TXRX3M_B (io), 28 TXRX3P_C (io), 29 TXRX3M_C (io), 31 TXRX3P_D (io), 32 TXRX3M_D (io), 34 TXRX4P_A (io), 35 TXRX4M_A (io), 37 TXRX4P_B (io), 38 TXRX4M_B (io), 39 TXRX4P_C (io), 40 TXRX4M_C (io), 42 TXRX4P_D (io), 43 TXRX4M_D (io), 48 TX_CLK6/REFCLKI6 (io), 49 TX_EN6/TX_CTL6 (in), 50 TX_ER6 (in), 51 COL6 (io), 52 TXD6_3 (in), 53 TXD6_2 (in), 54 TXD6_1 (in), 55 TXD6_0 (io), 57 RX_CLK6/REFCLKO6 (io), 58 RX_DV6/CRS_DV6/RX_CTL6 (io), 59 RX_ER6 (io), 60 CRS6 (io), 62 RXD6_3 (io), 63 RXD6_2 (io), 64 RXD6_1 (io), 65 RXD6_0 (io), 66 TX_CLK7/REFCLKO7 (io), 67 TX_EN7/TX_CTL7 (io), 68 TX_ER7 (io), 69 COL7 (io), 70 TXD7_3 (io), 71 TXD7_2 (io), 72 TXD7_1, 73 TXD7_0 (io), 75 RX_CLK7/REFCLKO7 (io), 76 RX_DV7/CRS_DV7/RX_CTL7 (io), 78 RX_ER7 (in), 79 CRS7 (io), 80 RXD7_3 (io), 81 RXD7_2 (io), 82 RXD7_1 (io), 83 RXD7_0 (io), 85 LED4_0 (io), 86 LED4_1 (io), 88 LED3_0 (io), 89 LED3_1 (io), 90 GPIO_1 (io), 91 LED2_0 (io), 92 LED2_1 (io), 93 PME_N (out), 94 INTRP_N (out), 95 SYNCLKO (io), 96 RESET_N (in), 97 SDO (out), 98 SDI/SDA/MDIO (io), 100 SCS_N (in), 101 SCL/MDC (in), 102 LED5_0 (io), 103 LED5_1 (io), 105 LED1_0 (io), 106 LED1_1 (io), 112 TXRX5P_A (io), 113 TXRX5M_A (io), 115 TXRX5P_B (io), 116 TXRX5M_B (io), 117 TXRX5P_C (io), 118 TXRX5M_C (io), 120 TXRX5P_D (io), 121 TXRX5M_D (io), 125 X0 (out), 126 XI (in), 127 ISET
part B pins: 3 AVDDL (power), 10 AVDDH (power), 11 DVDDL (power), 14 AVDDL (power), 19 AVDDL (power), 22 AVDDH (power), 23 DVDDL (power), 30 AVDDL (power), 33 AVDDH (power), 36 AVDDL (power), 41 AVDDL (power), 44 AVDDH (power), 45 DVDDL (power), 46 GND (power), 47 GND (power), 56 DVDDL (power), 61 VDDIO (power), 74 DVDDL, 77 VDDIO, 84 GND, 87 DVDDL (power), 99 VDDIO (power), 104 DVDDL (power), 107 GND (power), 108 NC, 109 GND (power), 110 DVDDL (power), 111 AVDDH (power), 114 AVDDL (power), 119 AVDDL (power), 122 AVDDH (power), 123 GND (power), 124 AVDDL (power), 128 AVDDH (power), 129 ePAD
part A text: MII/RMII/RGMII; SGMII; CONTROL; SPI; CLK
part B text: 1.2V ANALOG; 2.5V ANALOG; 1.2V DIGITAL

## KSZ9897S
designator U?
7-Port Gigabit Ethernet Switch / 1xRGMII and 1xSGMII Interface
footprint TQFP-128_14x14_EP10x10 (TSQFP, 128-Leads, Body 14.00x14.00mm, Pitch 0.40mm, 10mm Epad, IPC Medium Density)
part A pins: 1 TXRX1P_A (io), 2 TXRX1M_A (io), 4 TXRX1P_B (io), 5 TXRX1M_B (io), 6 TXRX1P_C (io), 7 TXRX1M_C (io), 8 TXRX1P_D (io), 9 TXRX1M_D (io), 12 TXRX2P_A (io), 13 TXRX2M_A (io), 15 TXRX2P_B (io), 16 TXRX2M_B (io), 17 TXRX2P_C (io), 18 TXRX2M_C (io), 20 TXRX2P_D (io), 21 TXRX2M_D (io), 24 TXRX3P_A (io), 25 TXRX3M_A (io), 26 TXRX3P_B (io), 27 TXRX3M_B (io), 28 TXRX3P_C (io), 29 TXRX3M_C (io), 31 TXRX3P_D (io), 32 TXRX3M_D (io), 34 TXRX4P_A (io), 35 TXRX4M_A (io), 37 TXRX4P_B (io), 38 TXRX4M_B (io), 39 TXRX4P_C (io), 40 TXRX4M_C (io), 42 TXRX4P_D (io), 43 TXRX4M_D (io), 48 TX_CLK6/REFCLKI6 (io), 49 TX_EN6/TX_CTL6 (in), 50 TX_ER6 (in), 51 COL6 (io), 52 TXD6_3 (in), 53 TXD6_2 (in), 54 TXD6_1 (in), 55 TXD6_0 (io), 57 RX_CLK6/REFCLKO6 (io), 58 RX_DV6/CRS_DV6/RX_CTL6 (io), 59 RX_ER6 (io), 60 CRS6 (io), 62 RXD6_3 (io), 63 RXD6_2 (io), 64 RXD6_1 (io), 65 RXD6_0 (io), 67 IBA, 76 S_REXT, 78 S_IN7M (in), 79 S_IN7P (in), 81 S_OUT7P (out), 82 S_OUT7M (out), 85 LED4_0 (io), 86 LED4_1 (io), 88 LED3_0 (io), 89 LED3_1 (io), 91 LED2_0 (io), 92 LED2_1 (io), 93 PME_N, 94 INTRP_N (out), 95 CLKO_25_125 (out), 96 RESET_N (in), 97 SDO (out), 98 SDI/SDA/MDIO (io), 100 SCS_N (in), 101 SCL/MDC (in), 102 LED5_0 (io), 103 LED5_1 (io), 105 LED1_0 (io), 106 LED1_1 (io), 112 TXRX5P_A (io), 113 TXRX5M_A (io), 115 TXRX5P_B (io), 116 TXRX5M_B (io), 117 TXRX5P_C (io), 118 TXRX5M_C (io), 120 TXRX5P_D (io), 121 TXRX5M_D (io), 125 X0 (out), 126 XI (in), 127 ISET
part B pins: 3 AVDDL (in), 10 AVDDH (in), 11 DVDDL (in), 14 AVDDL (in), 19 AVDDL (in), 22 AVDDH (in), 23 DVDDL (in), 30 AVDDL (in), 33 AVDDH (in), 36 AVDDL (in), 41 AVDDL (in), 44 AVDDH (in), 45 DVDDL (in), 46 GND, 47 GND, 56 DVDDL (in), 61 VDDIO (in), 66 DVDDL (in), 68 VDDIO (in), 69 GND, 70 DVDDL (in), 71 VDDLS (in), 72 VDDHS (in), 75 GND, 77 GND, 80 GND, 83 VDDHS (in), 84 VDDLS (in), 87 DVDDL (in), 99 VDDIO (in), 104 DVDDL (in), 107 GND, 109 GND, 110 DVDDL (in), 111 AVDDH (in), 114 AVDDL (in), 119 AVDDL (in), 122 AVDDH (in), 123 GND, 124 AVDDL (in), 128 AVDDH (in), 129 ePAD
part A text: MII/RMII/RGMII; SGMII; CONTROL; SPI; CLK
part B text: 1.2V ANALOG; 2.5V ANALOG; 1.2V DIGITAL

## LAN8720
designator U?
LAN8720 Ethernet PHY (24-pin QFN)
pins: 0 GND (power), 1 VDD2A (power), 2 LED2 / nINTSEL, 3 LED1 / REGOFF, 4 XTAL2, 5 XTAL1 / CLKIN, 6 VDDCR (power), 7 RXD1 / MODE1, 8 RXD0 / MODE0, 9 VDDIO (power), 10 RXER / PHYAD0, 11 CRS_DV / MODE2, 12 MDIO, 13 MDC, 14 nINT / REFCLKO, 15 nRST, 16 TXEN, 17 TXD0, 18 TXD1, 19 VDD1A (power), 20 TXN, 21 TXP, 22 RXN, 23 RXP, 24 RBIAS

## LDPW-162-242+
designator Z?
Diplexer, DC-1650/2400-6000MHz, SMD
footprint JC0603C
pins: 1 GND, 2 COM, 3 GND hidden to GND, 4 HP, 5 GND hidden to GND, 6 LP

## LED
designator D?
Typical RED, GREEN, YELLOW, AMBER GaAs LED
pins: A, K

## LF353
designator U?
Dual Op Amp, JFET Input, SO-8
part A pins: 1, 2, 3, 4, 8
part B pins: 5, 6, 7

## LFCG
designator Z?
Filter, Low Pass, 8-pin
pins: 1 GND, 2 GND hidden to GND, 3 GND hidden to GND, 4 OUT, 5 GND hidden to GND, 6 GND hidden to GND, 7 GND hidden to GND, 8 IN

## LFCN
designator Z?
Filter, LTCC Low Pass, 1206 size
pins: 1 IN, 2 GND, 3 OUT, 4 GND

## LINEARISER
designator Z?

## LM117ADJ
designator U?, comment LM117-ADJ
pins: 1 Vout, 2 ADJ, 3 Vin, 4 Vout

## LM136
designator D?, comment LM136-5.0
5V Shunt Regulator Diode; Value: LM136-5.0
pins: A, ADJ, K

## LM224
designator U?
Quad Op Amp
part A pins: 1, 2, 3, 4, 11
part B pins: 5, 6, 7
part C pins: 8, 9, 10
part D pins: 12, 13, 14

## LM335
designator D?, comment LM335H
Precision Temperature Sensor
pins: A, ADJ, K

## LM335M
designator U?
pins: 4 A, 5 ADJ, 8 K

## LM358
designator U?
Low Power Dual Op Amp
part A pins: 1, 2, 3, 4, 8
part B pins: 5, 6, 7

## LM2596_ADJ
designator U?
Switch mode regulator-Adjustable
pins: 0, 1 IN (power), 2 OUT (power), 3 GND, 4 FB (in), 5 ~{ON}/OFF (in)

## LM2662
designator U?
Switched Capacitor Voltage Inverter, 200mA, SO-8
pins: 1 FC, 2 CAP+, 3 GND, 4 CAP-, 5 Vout, 6 LV "Low-voltage", 7 OSC "Shutdown", 8 V+

## LM2664
designator U?
Switched Capacitor Voltage Inverter
pins: 1 GND, 2 Vout, 3 CAP-, 4 ~{SD} "Shutdown", 5 V+, 6 CAP+

## LM2903
designator U?
Dual Comparator, Low Pwr, +/-30V
part A pins: 1, 2, 3, 4, 8
part B pins: 5, 6, 7

## LM3671-1.8
designator U?
pins: 1 VIN, 2 GND, 3 ON/OFF, 4 FB, 5 VOUT

## LM4132AMF
designator U?
Voltage reference
pins: 1 NC, 2 GND (power), 3 EN (power), 4 VIN (power), 5 VREF

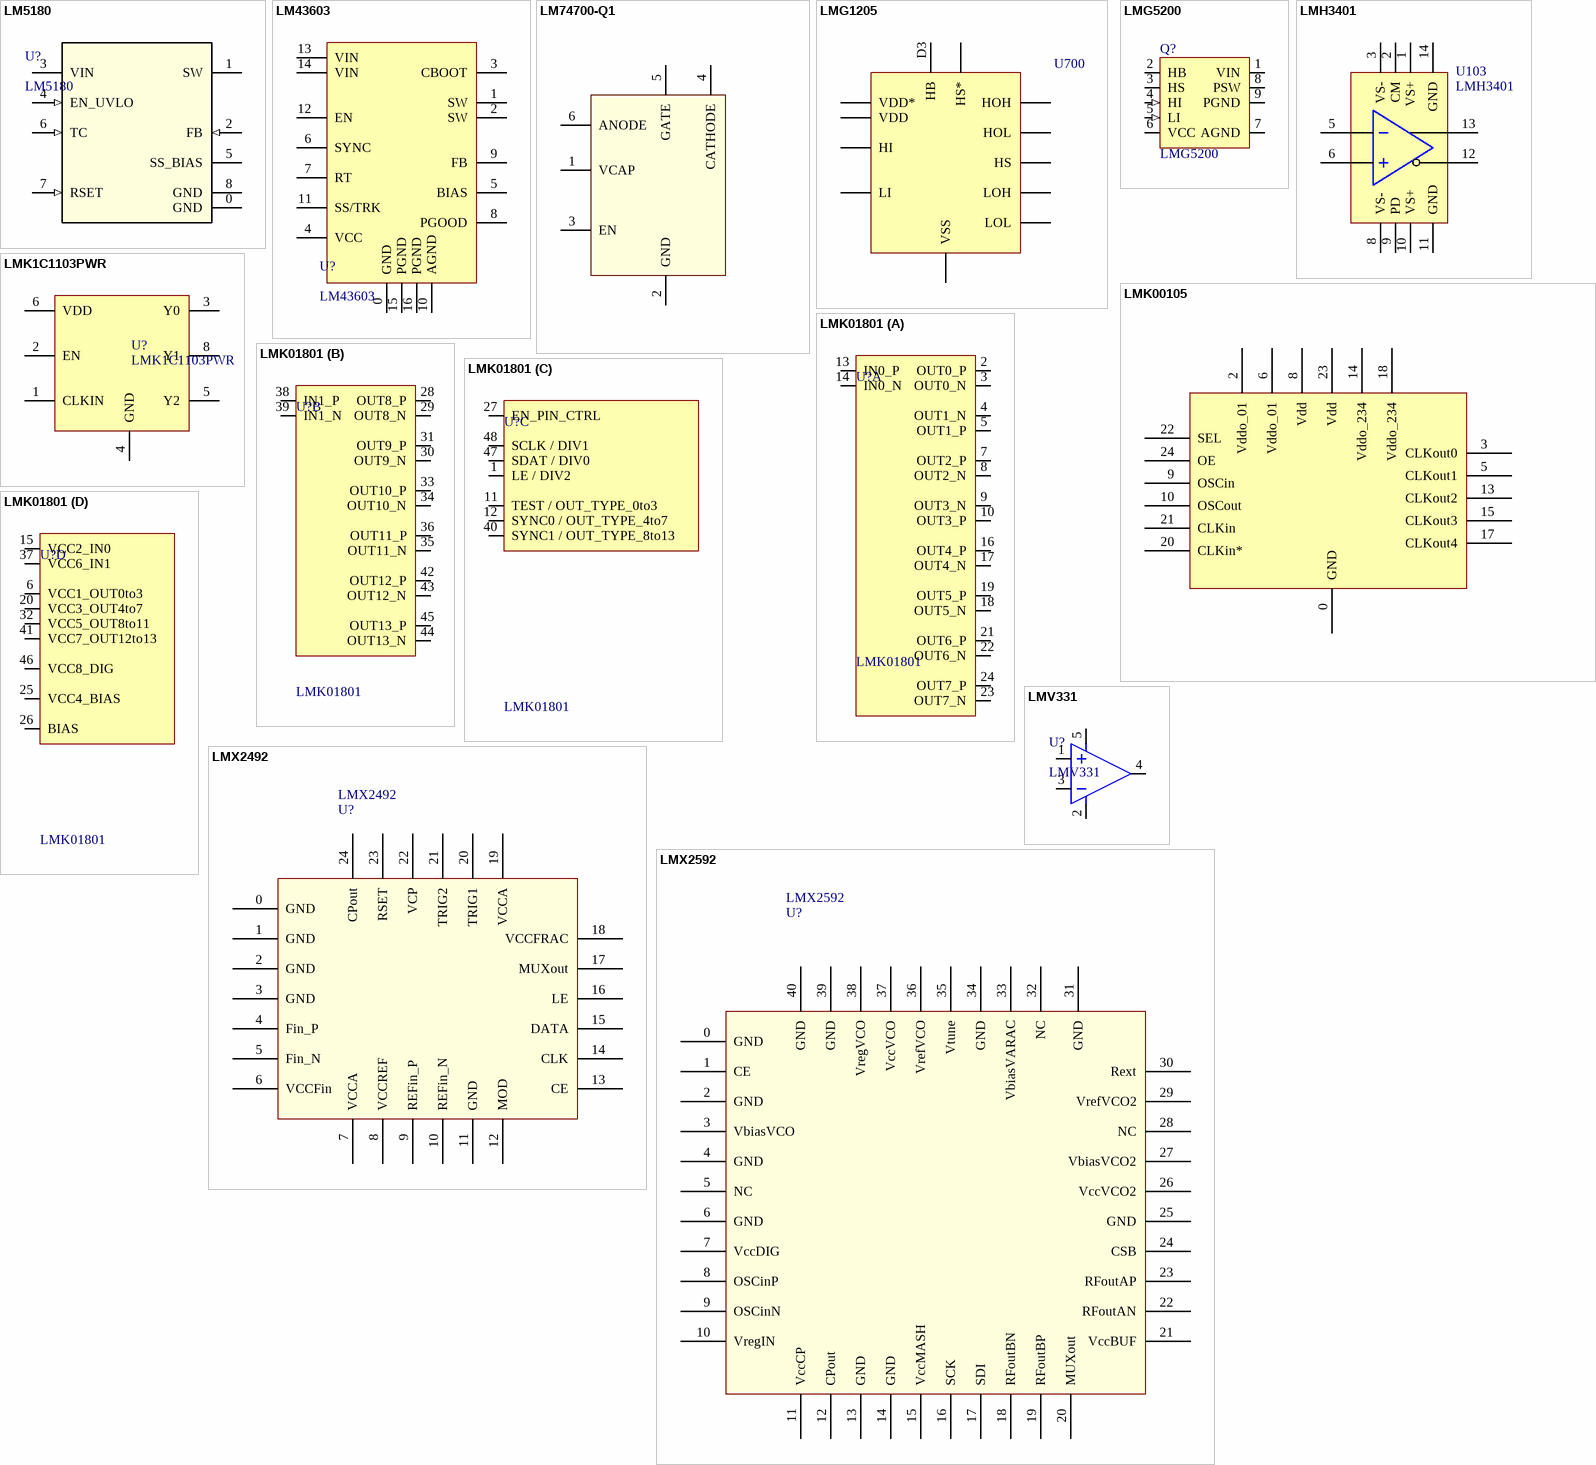
[diagram p14: symbols LM5180 to LMX2592]

## LM5180
designator U?
PSR Flyback converter, 65-Vin, 1.5A FET
pins: 0 GND (power), 1 SW (power), 2 FB (in), 3 VIN (power), 4 EN_UVLO (in), 5 SS_BIAS, 6 TC (in), 7 RSET (in), 8 GND (power)

## LM43603
designator U?
Switching Reg, 3.5-36V, 3A, Adj, Sync Buck, -40/+125C, TSSOP-16
pins: 0 GND, 1 SW, 2 SW, 3 CBOOT, 4 VCC, 5 BIAS, 6 SYNC, 7 RT, 8 PGOOD, 9 FB, 10 AGND, 11 SS/TRK, 12 EN, 13 VIN, 14 VIN, 15 PGND, 16 PGND

## LM74700-Q1
designator U?
Low IQ reverse battery protection ideal diode controller; Part Number: 20-H10-04
footprint SOT-23/6
pins: 1 VCAP, 2 GND, 3 EN, 4 CATHODE, 5 GATE, 6 ANODE

## LMG1205
designator U700
Half-Bridge GaN Gate Driver, 80V, 1.2 to 5A, 12-DSBGA
pins: A1 LOL, A2 VSS, A3 VDD "5V +ve gate drive supply", A4 LI, B1 LOH, B4 HI, C1 HS, C4 VDD* "5V +ve gate drive supply", D1 HOL, D2 HOH, D3 HB, D4 HS*

## LMG5200
designator Q?
GaN Fet Dual Bridge incl Driver, 80V 10A, -40/125C, QFN9; Value: LMG5200
pins: 1 VIN (power), 2 HB, 3 HS, 4 HI (in), 5 LI (in), 6 VCC (power), 7 AGND (power), 8 PSW, 9 PGND (power)

## LMH3401
designator U103
pins: 1 VS+, 2 CM, 3 VS-, 4 hidden, 5 -IN, 6 +IN, 7 hidden, 8 VS-, 9 PD, 10 VS+, 11 GND, 12 -Out, 13 +Out, 14 GND

## LMK1C1103PWR
designator U?
Clock Buffer. 1:4 Single, 250MHz, 1.8V-3.3V, TSSOP-8; Part Number: 20-H10-04
pins: 1 CLKIN, 2 EN, 3 Y0, 4 GND, 5 Y2, 6 VDD, 8 Y1

## LMK00105
designator U?
Clock Buffer, 5x LVCMOS, 2.5V/3.3V, -40C to +85C, WQFN24
footprint WQFN24 (QFN, 24-Leads, Body 4.00x4.00mm, Pitch 0.50mm, Thermal Pad 2.50x2.50mm, IPC Medium Density)
pins: 0 GND, 1 GND hidden, 2 Vddo_01, 3 CLKout0, 4 GND hidden, 5 CLKout1, 6 Vddo_01, 7 GND (power) hidden, 8 Vdd, 9 OSCin, 10 OSCout, 11 GND hidden, 12 GND hidden, 13 CLKout2, 14 Vddo_234, 15 CLKout3, 16 GND hidden, 17 CLKout4, 18 Vddo_234, 19 GND hidden, 20 CLKin*, 21 CLKin, 22 SEL, 23 Vdd, 24 OE

## LMK01801
designator U?
Dual Clock Divider Buffer
part A pins: 2 OUT0_P, 3 OUT0_N, 4 OUT1_N, 5 OUT1_P, 7 OUT2_P, 8 OUT2_N, 9 OUT3_N, 10 OUT3_P, 13 IN0_P, 14 IN0_N, 16 OUT4_P, 17 OUT4_N, 18 OUT5_N, 19 OUT5_P, 21 OUT6_P, 22 OUT6_N, 23 OUT7_N, 24 OUT7_P
part B pins: 28 OUT8_P, 29 OUT8_N, 30 OUT9_N, 31 OUT9_P, 33 OUT10_P, 34 OUT10_N, 35 OUT11_N, 36 OUT11_P, 38 IN1_P, 39 IN1_N, 42 OUT12_P, 43 OUT12_N, 44 OUT13_N, 45 OUT13_P
part C pins: 1 LE / DIV2, 11 TEST / OUT_TYPE_0to3, 12 SYNC0 / OUT_TYPE_4to7, 27 EN_PIN_CTRL (power), 40 SYNC1 / OUT_TYPE_8to13, 47 SDAT / DIV0, 48 SCLK / DIV1
part D pins: 6 VCC1_OUT0to3 (power), 15 VCC2_IN0 (power), 20 VCC3_OUT4to7 (power), 25 VCC4_BIAS (power), 26 BIAS, 32 VCC5_OUT8to11 (power), 37 VCC6_IN1 (power), 41 VCC7_OUT12to13 (power), 46 VCC8_DIG (power)

## LMV331
designator U?
Low noise rail-rail op-amp
pins: 1 IN+, 2 V-, 3 IN-, 4 Out, 5 V+

## LMX2492
designator U?
14GHz Fractional-N PLL
pins: 0 GND, 1 GND "Ground", 2 GND "Ground", 3 GND "Ground", 4 Fin_P "Freq in pos", 5 Fin_N "Freq in neg", 6 VCCFin "VCC FIn", 7 VCCA "VCC LDOs", 8 VCCREF "VCC REF", 9 REFin_P "REFin pos", 10 REFin_N "REFin neg", 11 GND "Ground", 12 MOD "Multiplexed Pin", 13 CE "Chip Enable", 14 CLK "SPI Clock", 15 DATA "SPI Data", 16 LE "SPI Latch Enable", 17 MUXout "Multiplexed Pin", 18 VCCFRAC "VCC Frac", 19 VCCA "VCC General", 20 TRIG1 "Trigger 1 multiplexed pin", 21 TRIG2 "Trigger 2 multiplexed pin", 22 VCP (power) "Charge Pump Supply", 23 RSET "No Connect", 24 CPout "Charge Pump Out"

## LMX2592
designator U?
9.8GHz Fractional-N PLL w/ VCO
pins: 0 GND, 1 CE "Ground", 2 GND "Ground", 3 VbiasVCO "Ground", 4 GND "Freq in pos", 5 NC "Freq in neg", 6 GND "VCC FIn", 7 VccDIG "VCC LDOs", 8 OSCinP "VCC REF", 9 OSCinN "REFin pos", 10 VregIN "REFin neg", 11 VccCP "Ground", 12 CPout "Multiplexed Pin", 13 GND "Chip Enable", 14 GND "SPI Clock", 15 VccMASH "SPI Data", 16 SCK "SPI Latch Enable", 17 SDI "Multiplexed Pin", 18 RFoutBN "VCC Frac", 19 RFoutBP "VCC Frac", 20 MUXout "VCC Frac", 21 VccBUF "Trigger 2 multiplexed pin", 22 RFoutAN "Charge Pump Supply", 23 RFoutAP "No Connect", 24 CSB "Charge Pump Out", 25 GND, 26 VccVCO2, 27 VbiasVCO2, 28 NC, 29 VrefVCO2, 30 Rext, 31 GND, 32 NC, 33 VbiasVARAC, 34 GND, 35 Vtune, 36 VrefVCO, 37 VccVCO, 38 VregVCO, 39 GND, 40 GND

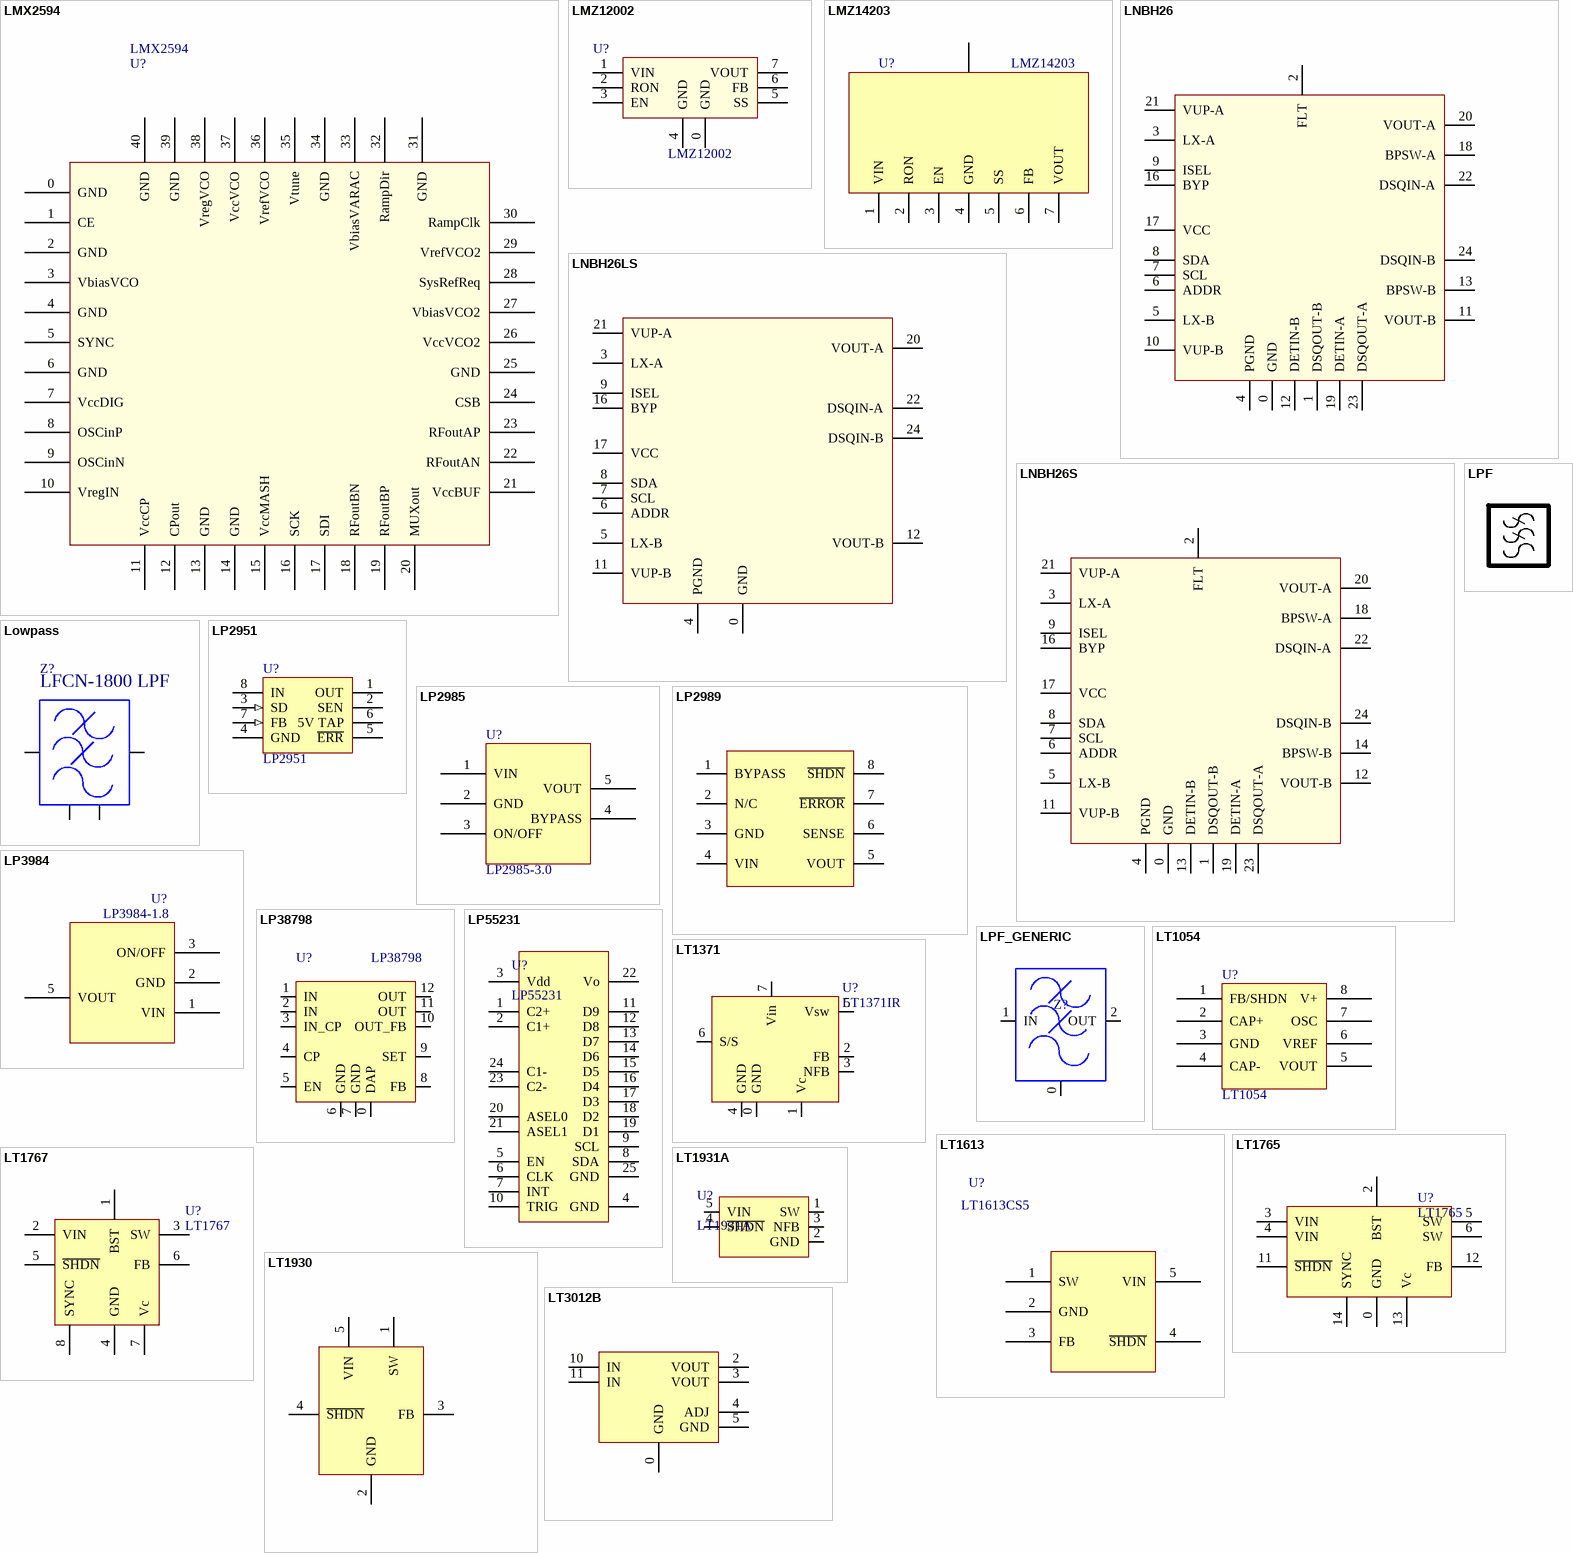
[diagram p15: symbols LMX2594 to LT3012B]

## LMX2594
designator U?
15GHz Fractional-N PLL w/ VCO
pins: 0 GND, 1 CE "Ground", 2 GND "Ground", 3 VbiasVCO "Ground", 4 GND "Freq in pos", 5 SYNC "Freq in neg", 6 GND "VCC FIn", 7 VccDIG "VCC LDOs", 8 OSCinP "VCC REF", 9 OSCinN "REFin pos", 10 VregIN "REFin neg", 11 VccCP "Ground", 12 CPout "Multiplexed Pin", 13 GND "Chip Enable", 14 GND "SPI Clock", 15 VccMASH "SPI Data", 16 SCK "SPI Latch Enable", 17 SDI "Multiplexed Pin", 18 RFoutBN "VCC Frac", 19 RFoutBP "VCC Frac", 20 MUXout "VCC Frac", 21 VccBUF "Trigger 2 multiplexed pin", 22 RFoutAN "Charge Pump Supply", 23 RFoutAP "No Connect", 24 CSB "Charge Pump Out", 25 GND, 26 VccVCO2, 27 VbiasVCO2, 28 SysRefReq, 29 VrefVCO2, 30 RampClk, 31 GND, 32 RampDir, 33 VbiasVARAC, 34 GND, 35 Vtune, 36 VrefVCO, 37 VccVCO, 38 VregVCO, 39 GND, 40 GND

## LMZ12002
designator U?
Voltage Regulator 20V/2A; Value: LMZ12002
footprint NDW7 (TI Simple Switcher Voltage Regulator LMZ Family)
pins: 0 GND (power), 1 VIN (power), 2 RON, 3 EN, 4 GND (power), 5 SS, 6 FB, 7 VOUT (power)

## LMZ14203
designator U?
DC-DC Converter, 6-42V, 3A
pins: 0 PADDLE, 1 VIN, 2 RON, 3 EN, 4 GND, 5 SS, 6 FB, 7 VOUT

## LNBH26
designator U?
LNB Supply/Control, 13V/18V, 22kHz Select, I2C, 1A; Part Number: 20-H10-04
footprint QFN-24 4X4MM
pins: 0 GND, 1 DSQOUT-B, 2 FLT, 3 LX-A, 4 PGND, 5 LX-B, 6 ADDR, 7 SCL, 8 SDA, 9 ISEL, 10 VUP-B, 11 VOUT-B, 12 DETIN-B, 13 BPSW-B, 14 N/C hidden, 15 GND hidden to GND, 16 BYP, 17 VCC, 18 BPSW-A, 19 DETIN-A, 20 VOUT-A, 21 VUP-A, 22 DSQIN-A, 23 DSQOUT-A, 24 DSQIN-B

## LNBH26LS
designator U?
LNB Supply/Control, 13V/18V, 22kHz Select, I2C; Part Number: 20-H10-04
footprint QFN-24 4X4MM
pins: 0 GND, 1 GND hidden to GND, 2 GND hidden to GND, 3 LX-A, 4 PGND, 5 LX-B, 6 ADDR, 7 SCL, 8 SDA, 9 ISEL, 10 NC hidden, 11 VUP-B, 12 VOUT-B, 13 GND hidden to GND, 14 GND hidden to GND, 15 GND hidden to GND, 16 BYP, 17 VCC, 18 GND hidden to GND, 19 GND hidden to GND, 20 VOUT-A, 21 VUP-A, 22 DSQIN-A, 23 GND hidden to GND, 24 DSQIN-B

## LNBH26S
designator U?
LNB Supply/Control, 13V/18V, 22kHz Select, I2C
pins: 0 GND, 1 DSQOUT-B, 2 FLT, 3 LX-A, 4 PGND, 5 LX-B, 6 ADDR, 7 SCL, 8 SDA, 9 ISEL, 10 NC hidden, 11 VUP-B, 12 VOUT-B, 13 DETIN-B, 14 BPSW-B, 15 GND hidden to GND, 16 BYP, 17 VCC, 18 BPSW-A, 19 DETIN-A, 20 VOUT-A, 21 VUP-A, 22 DSQIN-A, 23 DSQOUT-A, 24 DSQIN-B

## Lowpass
designator Z?, comment LFCN-1800 LPF
pins: 1, 2, 3, 4

## LP2951
designator U?
Adjustable Micropower Voltage Regulator; Published: 15-Apr-2002; LatestRevisionDate: 13-Apr-2006; LatestRevisionNote: IPC-7351 Footprint Added.; DatasheetVersion: May-1999; PackageVersion: Sep-1997; PackageReference: M08A; Publisher: Altium Limited; PackageDescription: 8-Pin Small Outline Integrated Circuit 1.27 mm Pitch; Code_JEDEC: MS-012-AA; Code_IPC: SOIC127P600-8; ComponentLink1Description: Manufacturer Link; ComponentLink1URL: http://www.national.com/; ComponentLink2Description: Datasheet; ComponentLink2URL: http://www.national.com/ds.cgi/LP/LP2950.pdf; ComponentLink3Description: URL Link1; ComponentLink3URL: http://www.national.com/pf/LP/LP2951.html
pins: 1 OUT (power), 2 SEN, 3 SD (in), 4 GND (power), 5 ~{ERR} (oc), 6 5V TAP, 7 FB (in), 8 IN (power)

## LP2985
designator U?, comment LP2985-3.0
Linear Regulator in SOT-23/5 package
pins: 1 VIN, 2 GND, 3 ON/OFF, 4 BYPASS, 5 VOUT

## LP2989
designator U?
Linear regulator, 500mA
pins: 1 BYPASS, 2 N/C, 3 GND, 4 VIN, 5 VOUT, 6 SENSE, 7 ~{ERROR}, 8 ~{SHDN}

## LP3984
designator U?, comment LP3984-1.8
pins: 1 VIN, 2 GND, 3 ON/OFF, 4 N/C hidden, 5 VOUT

## LP38798
designator U?
Volt Regulator, 1.2-20V Adj, 800mA, LDO, -40/+125, 12WSON
pins: 0 DAP (power), 1 IN (power), 2 IN (power), 3 IN_CP (power), 4 CP, 5 EN, 6 GND (power), 7 GND (power), 8 FB, 9 SET, 10 OUT_FB (power), 11 OUT (power), 12 OUT (power)

## LP55231
designator U?
LP55231 9 Channel RGB LED Driver; Part Number: 52-55231-01
footprint QFN25_LP55231 (QFN, 24-Leads, Body 4.00x4.00mm, Pitch 0.50mm, Thermal Pad 2.50x2.50mm, IPC High Density)
pins: 1 C2+, 2 C1+, 3 Vdd (power), 4 GND (power), 5 EN, 6 CLK, 7 INT, 8 SDA, 9 SCL, 10 TRIG, 11 D9, 12 D8, 13 D7, 14 D6, 15 D5, 16 D4, 17 D3, 18 D2, 19 D1, 20 ASEL0, 21 ASEL1, 22 Vo, 23 C2-, 24 C1-, 25 GND (power)

## LPF
designator Z?

## LPF_GENERIC
designator Z?
pins: 0 GND, 1 IN, 2 OUT

## LT1054
designator U?
pins: 1 FB/SHDN, 2 CAP+, 3 GND, 4 CAP-, 5 VOUT, 6 VREF, 7 OSC, 8 V+

## LT1371
designator U?, comment LT1371IR
500kHz High Efficiency 3A Switching Regulator, Indust Tmp
footprint LT1371_DDPAK
pins: 0 GND, 1 Vc, 2 FB, 3 NFB, 4 GND, 5 Vsw, 6 S/S, 7 Vin

## LT1613
designator U?, comment LT1613CS5
Voltage Converter, Boost to +34V, Low Noise, SOT-23/5
pins: 1 SW, 2 GND, 3 FB, 4 ~{SHDN}, 5 VIN

## LT1765
designator U?
1.2MHz DC/DC, 3A
pins: 0 GND "Switch", 1 GND (power) hidden to GND "Ground", 2 BST, 3 VIN (power) "Input Supply", 4 VIN (power) "Input Supply", 5 SW "Switch", 6 SW "Switch", 7 N/C hidden "Switch", 8 GND (power) hidden to GND "Ground", 9 GND (power) hidden to GND "Ground", 10 N/C hidden "Switch", 11 ~{SHDN} "Shutdown", 12 FB "Feedback", 13 Vc, 14 SYNC, 15 N/C hidden "Switch", 16 GND hidden to GND "Switch"

## LT1767
designator U?
1.2MHz DC/DC 1.5A; Published: 6-Jun-2005; DatasheetVersion: Jun-2001; PackageVersion: 2005; PackageReference: S5-T; Publisher: Altium Limited; PackageDescription: SOT-23/SC-74A; 5 Leads; Body 3.1 x 3 mm, inc. leads (LxW max); ComponentLink1Description: Manufacturer Link; ComponentLink1URL: http://www.linear.com/; ComponentLink2Description: Datasheet; ComponentLink2URL: http://www.linear.com/pc/downloadDocument.do?navId=H0,C1,C1003,C1042,P1863,D3921
pins: 0 GND (power) hidden to GND "Ground", 1 BST, 2 VIN (power) "Input Supply", 3 SW "Switch", 4 GND (power) "Ground", 5 ~{SHDN} "Shutdown", 6 FB "Feedback", 7 Vc, 8 SYNC

## LT1930
designator U?
Switching Reg, Boost, Adj, 300mA, Lo Noise, 1.2MHz, SOT-23/5
pins: 1 SW, 2 GND, 3 FB, 4 ~{SHDN}, 5 VIN

## LT1931A
designator U?
1.2MHz  Inverting DC/DC Converter
pins: 1 SW, 2 GND, 3 NFB, 4 ~{SHDN}, 5 VIN

## LT3012B
designator U?
High Voltage LDO
pins: 0 GND, 2 VOUT, 3 VOUT, 4 ADJ, 5 GND, 10 IN, 11 IN

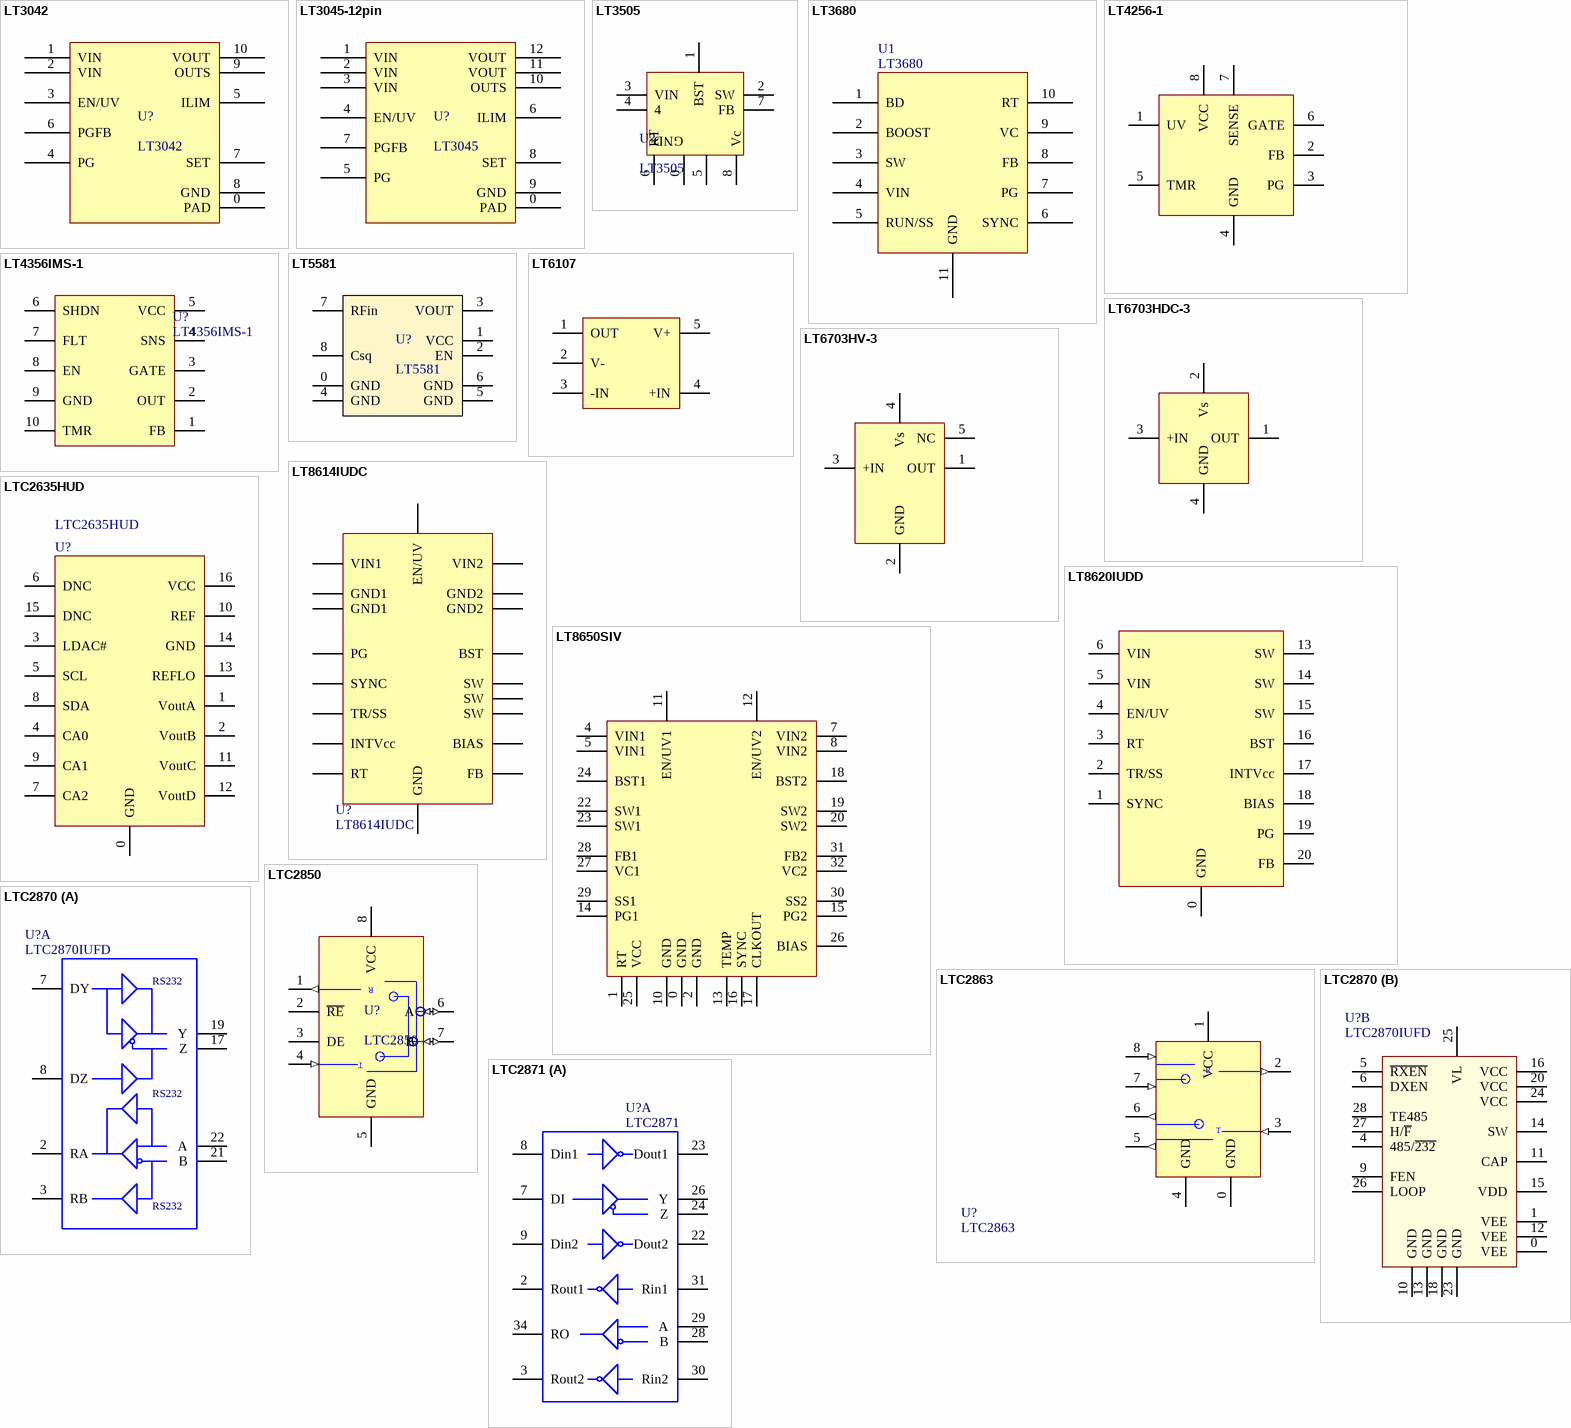
[diagram p16: symbols LT3042 to LTC2871]

## LT3042
designator U?
Adj. Voltage, 200mA, Ultralow Noise Linear Regulator
footprint DFN50P300X300X80_HS-11N (DFN, 10-Leads, Body 3.00x3.00mm, Pitch 0.50mm, Thermal Pad 1.65x2.38mm, IPC Medium Density)
pins: 0 PAD, 1 VIN, 2 VIN, 3 EN/UV, 4 PG, 5 ILIM, 6 PGFB, 7 SET, 8 GND, 9 OUTS, 10 VOUT

## LT3045-12pin
designator U?, comment LT3045
Adj. Voltage, 500mA, Ultralow Noise Linear Regulator
pins: 0 PAD, 1 VIN, 2 VIN, 3 VIN, 4 EN/UV, 5 PG, 6 ILIM, 7 PGFB, 8 SET, 9 GND, 10 OUTS, 11 VOUT, 12 VOUT

## LT3505
designator U?
Switching Regulator, Adj, 1.2A Buck, 36V input
pins: 0 GND, 1 BST, 2 SW, 3 VIN, 4, 5 GND, 6 RT, 7 FB, 8 Vc

## LT3680
designator U1
Step Down Converter
pins: 1 BD, 2 BOOST, 3 SW, 4 VIN, 5 RUN/SS, 6 SYNC, 7 PG, 8 FB, 9 VC, 10 RT, 11 GND

## LT4256-1
designator U?
Positive HV Hot Swap Controller
pins: 1 UV, 2 FB, 3 PG, 4 GND, 5 TMR, 6 GATE, 7 SENSE, 8 VCC

## LT4356IMS-1
designator U?
Surge stopper
pins: 1 FB, 2 OUT, 3 GATE, 4 SNS, 5 VCC, 6 SHDN, 7 FLT, 8 EN, 9 GND, 10 TMR

## LT5581
designator U?
10MHz-6GHz Power Detector with 40dB Dynamoc Range, in 2x3mm DFN package; MPN: LT5581IDDB#PBF; Part Number: 54-5581-01
footprint LinearTech_DFN8+PP_3x2mm (From LT5581 datasheet)
pins: 0 GND, 1 VCC, 2 EN, 3 VOUT, 4 GND, 5 GND, 6 GND, 7 RFin, 8 Csq

## LT6107
designator U?
Current Sense Amplifier, SOT-23/5
pins: 1 OUT, 2 V-, 3 -IN, 4 +IN, 5 V+

## LT6703HDC-3
designator U?
Part Number: 20-H10-04
pins: 1 OUT, 2 Vs, 3 +IN, 4 GND

## LT6703HV-3
designator U?
Comparator with internal reference, SOT-23/5
pins: 1 OUT, 2 GND, 3 +IN, 4 Vs, 5 NC

## LT8614IUDC
designator U?
42V 4A Syncronous step-down converter
pins: 1 BIAS, 2 INTVcc, 3 BST, 4 VIN1, 6 GND1, 7 GND1, 8 SW, 9 SW, 10 GND2, 11 GND2, 13 VIN2, 14 EN/UV, 15 RT, 16 TR/SS, 17 SYNC, 18 GND, 19 PG, 20 FB, 21 SW

## LT8620IUDD
designator U?
*Switching Reg, Dual, 3.4V-65Vin, -40/125C, QFN24 3x5mm
footprint QFN24 3x5MM
pins: 0 GND, 1 SYNC, 2 TR/SS, 3 RT, 4 EN/UV, 5 VIN, 6 VIN, 7 NC hidden, 8 GND hidden to GND, 9 GND hidden to GND, 10 NC hidden to GND, 11 NC hidden to GND, 12 NC hidden to GND, 13 SW, 14 SW, 15 SW, 16 BST, 17 INTVcc, 18 BIAS, 19 PG, 20 FB, 21 NC hidden to GND, 22 NC hidden to GND, 23 NC hidden to GND, 24 NC hidden to GND

## LT8650SIV
designator U?
*Switching Reg, Dual, 3.4V-42Vin, -40/125C, LQFN 6x4mm
pins: 0 GND, 1 RT, 2 GND, 4 VIN1, 5 VIN1, 7 VIN2, 8 VIN2, 10 GND, 11 EN/UV1, 12 EN/UV2, 13 TEMP, 14 PG1, 15 PG2, 16 SYNC, 17 CLKOUT, 18 BST2, 19 SW2, 20 SW2, 22 SW1, 23 SW1, 24 BST1, 25 VCC, 26 BIAS, 27 VC1, 28 FB1, 29 SS1, 30 SS2, 31 FB2, 32 VC2

## LTC2635HUD
designator U?
D/A Converter, Quad, I2C in QFN 3x3mm
pins: 0 GND, 1 VoutA, 2 VoutB, 3 LDAC#, 4 CA0, 5 SCL, 6 DNC, 7 CA2, 8 SDA, 9 CA1, 10 REF, 11 VoutC, 12 VoutD, 13 REFLO, 14 GND, 15 DNC, 16 VCC

## LTC2850
designator U?
Transceiver RS422/485, 3V3, ESD, -40/+85, 8MSOP
pins: 1 RO (out), 2 ~{RE}, 3 DE, 4 DI (in), 5 GND (power), 6 A (io), 7 B (io), 8 VCC (power)
text: R; T

## LTC2863
designator U?
RS485/RS422 Transceiver
pins: 0 GND (power), 1 VCC (power), 2 RO (out), 3 DI (in), 4 GND (power), 5 Y (out), 6 Z (out), 7 B (in), 8 A (in)
text: R; T

## LTC2870
designator U?, comment LTC2870IUFD
Multiprotocol RS232/422/485 Receiver
part A pins: 2 RA, 3 RB, 7 DY, 8 DZ, 17 Z, 19 Y, 21 B, 22 A
part B pins: 0 VEE, 1 VEE, 4 485/~{232}, 5 ~{RXEN}, 6 DXEN, 9 FEN, 10 GND (power), 11 CAP, 12 VEE, 13 GND (power), 14 SW, 15 VDD, 16 VCC, 18 GND (power), 20 VCC, 23 GND (power), 24 VCC, 25 VL (power), 26 LOOP, 27 H/~{F}, 28 TE485
part A text: RS232

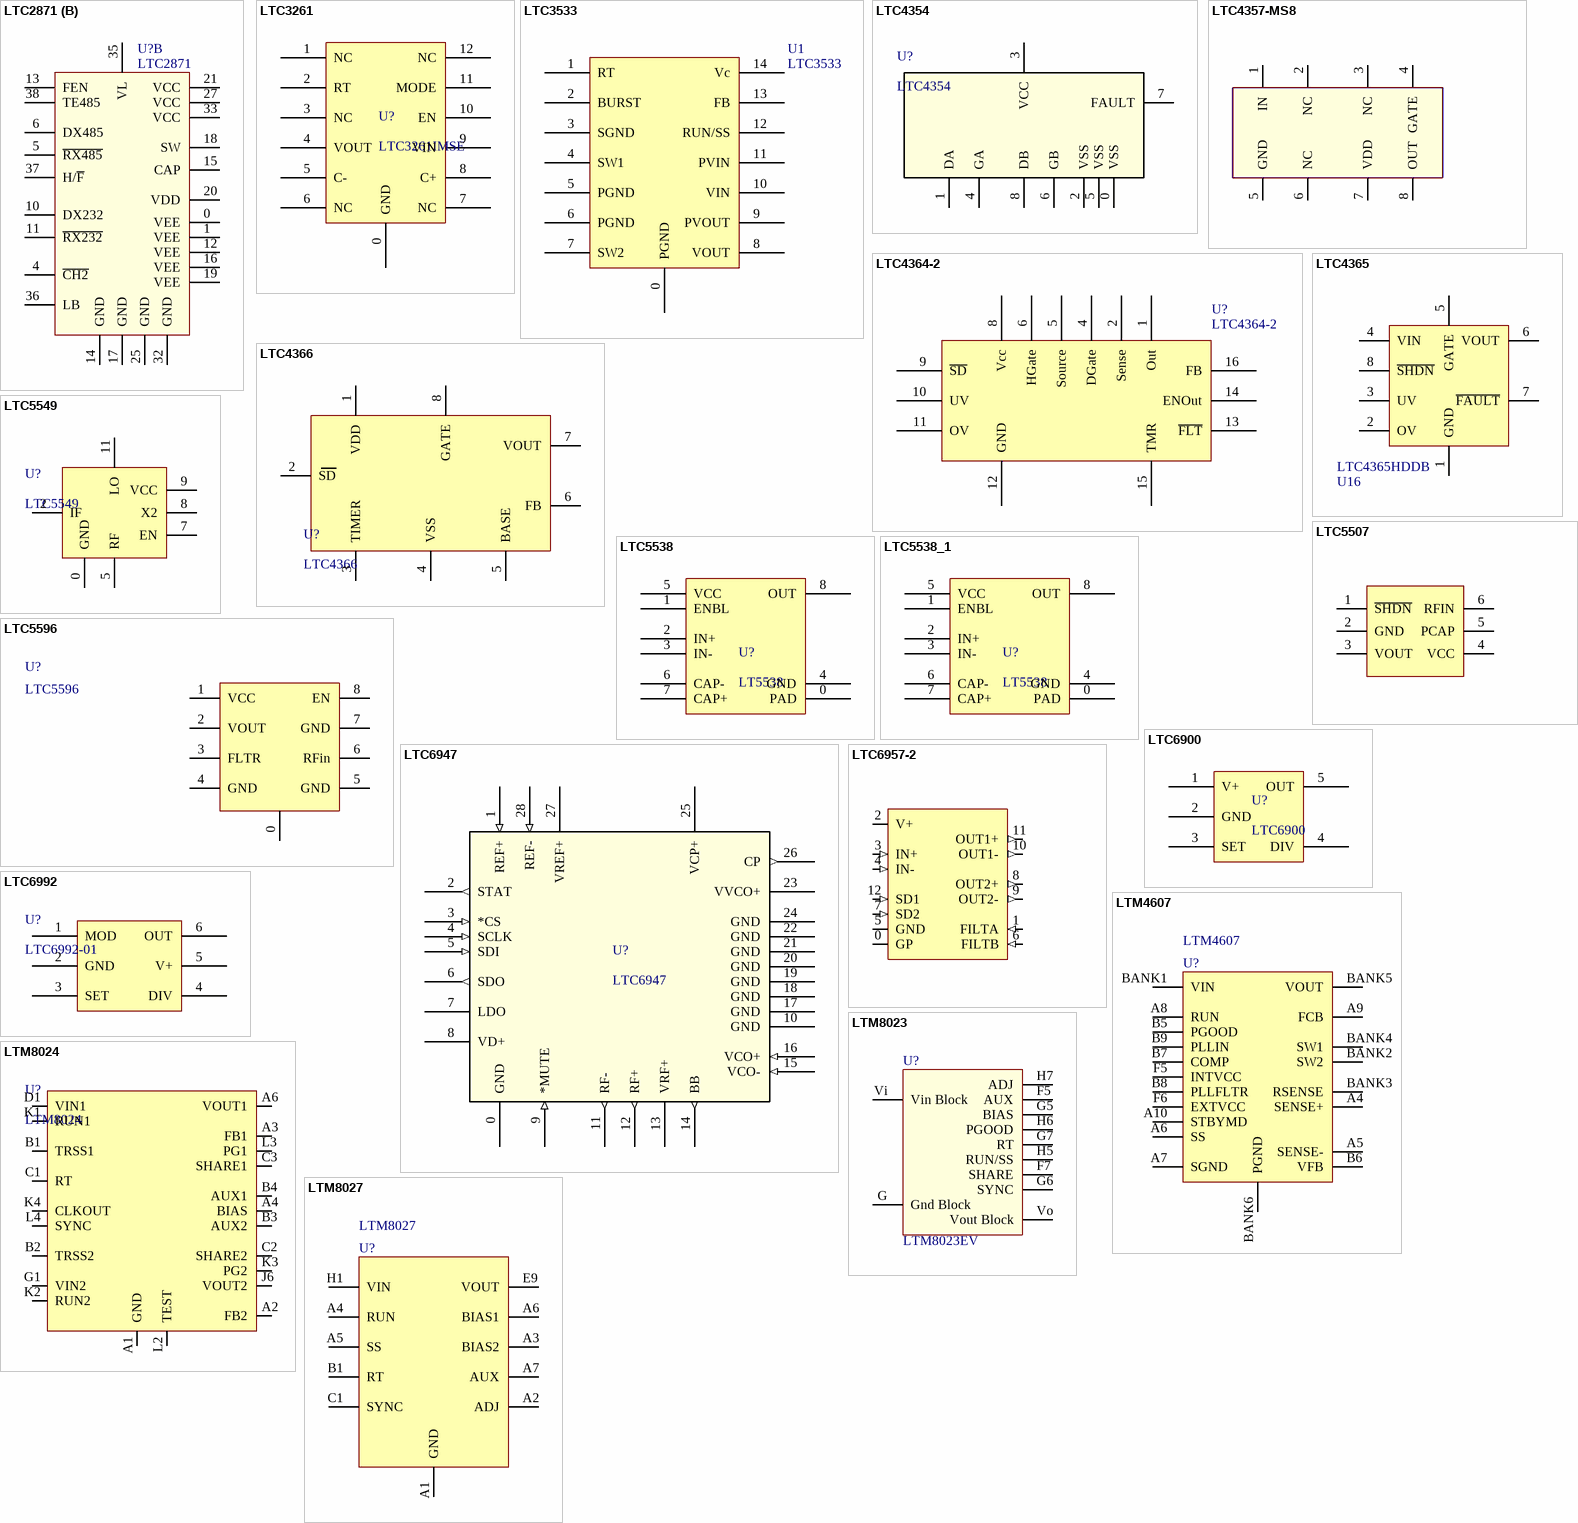
[diagram p17: symbols LTC2871 to LTM8027]

## LTC2871
designator U?
Transceiver RS422/485/RS232, 3V, ESD, -40/+85; Designator: U?; Component Kind: Standard; Component Type: Standard
footprint LTC2871 (Multiprotocol  Transceiver with  Integrated Termination)
part A pins: 2 Rout1, 3 Rout2, 7 DI, 8 Din1, 9 Din2 "Unused", 22 Dout2 "Unused", 23 Dout1 "Unused", 24 Z, 26 Y, 28 B, 29 A, 30 Rin2, 31 Rin1 "Unused", 34 RO "Unused"
part B pins: 0 VEE, 1 VEE "Unused", 4 ~{CH2} "Unused", 5 ~{RX485} "Unused", 6 DX485 "Unused", 10 DX232 "Unused", 11 ~{RX232} "Unused", 12 VEE "Unused", 13 FEN, 14 GND (power), 15 CAP "Unused", 16 VEE "Unused", 17 GND (power), 18 SW "Unused", 19 VEE "Unused", 20 VDD "Unused", 21 VCC "Unused", 25 GND (power), 27 VCC "Unused", 32 GND (power), 33 VCC "Unused", 35 VL, 36 LB "Unused", 37 H/~{F} "Unused", 38 TE485 "Unused"

## LTC3261
designator U?, comment LTC3261IMSE
Voltage Converter, 100mA, MSOP-12, -40/+125C
pins: 0 GND, 1 NC, 2 RT, 3 NC, 4 VOUT, 5 C-, 6 NC, 7 NC, 8 C+, 9 VIN, 10 EN, 11 MODE, 12 NC

## LTC3533
designator U1
Buck Boost switchmode converter
pins: 0 PGND, 1 RT, 2 BURST, 3 SGND, 4 SW1, 5 PGND, 6 PGND, 7 SW2, 8 VOUT, 9 PVOUT, 10 VIN, 11 PVIN, 12 RUN/SS, 13 FB, 14 Vc

## LTC4354
designator U?
Neg Voltage, Diode-OR controller
pins: 0 VSS (power), 1 DA (power), 2 VSS, 3 VCC, 4 GA, 5 VSS, 6 GB, 7 FAULT, 8 DB (power)

## LTC4357-MS8
designator U?, comment LTC4357
Diode controller, diode-OR, 9V to 80-V, MSOP-8; Part Number: 53-4357-01
pins: 1 IN, 2 NC, 3 NC, 4 GATE, 5 GND, 6 NC, 7 VDD, 8 OUT

## LTC4364-2
designator U?
Surge Protector
pins: 1 Out, 2 Sense, 4 DGate, 5 Source, 6 HGate, 8 Vcc, 9 ~{SD}, 10 UV, 11 OV, 12 GND, 13 ~{FLT}, 14 ENOut, 15 TMR, 16 FB

## LTC4365
designator U16, comment LTC4365HDDB
Supply Protection Controller
pins: 0 GND hidden to GND, 1 GND, 2 OV, 3 UV, 4 VIN, 5 GATE, 6 VOUT, 7 ~{FAULT}, 8 ~{SHDN}

## LTC4366
designator U?
Surge Stopper, 80V, -40/+125degC, TSOT-23-8
pins: 1 VDD, 2 SD, 3 TIMER, 4 VSS, 5 BASE, 6 FB, 7 VOUT, 8 GATE

## LTC5507
designator U?
pins: 1 ~{SHDN}, 2 GND, 3 VOUT, 4 VCC, 5 PCAP, 6 RFIN

## LTC5538
designator U?, comment LT5538
RF Power Detector, 40MHz to 3.8GHz, 75dB Dynamic Range
pins: 0 PAD, 1 ENBL, 2 IN+, 3 IN-, 4 GND, 5 VCC, 6 CAP-, 7 CAP+, 8 OUT

## LTC5538_1
designator U?, comment LT5538
RF Power Detector, 40MHz to 3.8GHz, 75dB Dynamic Range
footprint DFN50P300X300X80_HS-9N (DFN, 8-Leads, Body 3.00x3.00mm, Pitch 0.50mm, Thermal Pad 1.65x2.33mm, IPC Medium Density)
pins: 0 PAD, 1 ENBL, 2 IN+, 3 IN-, 4 GND, 5 VCC, 6 CAP-, 7 CAP+, 8 OUT

## LTC5549
designator U?
Mixer, LO Buffer, 2-14GHz, IF=0.5-6GHz, LO=0dBm, UDB-12
pins: 0 GND, 1 GND hidden to GND, 2 IF, 3 GND hidden to GND, 4 GND hidden to GND, 5 RF, 6 GND hidden to GND, 7 EN, 8 X2, 9 VCC, 10 GND hidden to GND, 11 LO, 12 GND hidden to GND

## LTC5596
designator U?
35GHz RMS Power Detector
pins: 0 GND, 1 VCC, 2 VOUT, 3 FLTR, 4 GND, 5 GND, 6 RFin, 7 GND, 8 EN

## LTC6900
designator U?
Precision, low power oscillator
pins: 1 V+, 2 GND, 3 SET, 4 DIV, 5 OUT

## LTC6947
designator U?
PLL Synth, 6GHz, Fractional-N, 28pin 4x5; Mfr_Name: Analog Devices / Linear Technology; Manufacturer_Part_Number: LTC6947IUFD#PBF; Copyright: Copyright (C) 2022 Ultra Librarian. All rights reserved.; RefDes: RefDes; Type: DEV
footprint QFN-28_UFD_LIT
pins: 0 GND (power), 1 REF+ (in), 2 STAT (out), 3 *CS (in), 4 SCLK (in), 5 SDI (in), 6 SDO (out), 7 LDO, 8 VD+ (power), 9 *MUTE (in), 10 GND (power), 11 RF- (out), 12 RF+ (out), 13 VRF+, 14 BB (out), 15 VCO- (in), 16 VCO+ (in), 17 GND (power), 18 GND (power), 19 GND (power), 20 GND (power), 21 GND (power), 22 GND (power), 23 VVCO+, 24 GND (power), 25 VCP+, 26 CP (out), 27 VREF+, 28 REF- (in)

## LTC6957-2
designator U?
Part Number: 20-H10-04
pins: 0 GP, 1 FILTA (in), 2 V+ (power), 3 IN+ (in), 4 IN- (in), 5 GND (power), 6 FILTB (in), 7 SD2 (in), 8 OUT2+ (out), 9 OUT2- (out), 10 OUT1- (out), 11 OUT1+ (out), 12 SD1 (in)

## LTC6992
designator U?, comment LTC6992-01
Voltage Controlled PWM
pins: 1 MOD, 2 GND, 3 SET, 4 DIV, 5 V+, 6 OUT

## LTM4607
designator U?
DC/DC Converter, 4.5-36V/24Vadj, 5/10A, uModule
pins: A4 SENSE+, A5 SENSE-, A6 SS, A7 SGND, A8 RUN, A9 FCB, A10 STBYMD, B5 PGOOD, B6 VFB, B7 COMP, B8 PLLFLTR, B9 PLLIN, BANK1 VIN, BANK2 SW2, BANK3 RSENSE, BANK4 SW1, BANK5 VOUT, BANK6 PGND, F5 INTVCC, F6 EXTVCC

## LTM8023
designator U?, comment LTM8023EV
Switching Regulator
pins: F5 AUX, F7 SHARE, G Gnd Block, G5 BIAS, G6 SYNC, G7 RT, H5 RUN/SS, H6 PGOOD, H7 ADJ, Vi Vin Block, Vo Vout Block